# Altium schematic symbol library 原理图封装库.SCHLIB: 195 symbols (part 1 of 2)
Pins are listed as number, name and electrical type; pins without a type are passive.

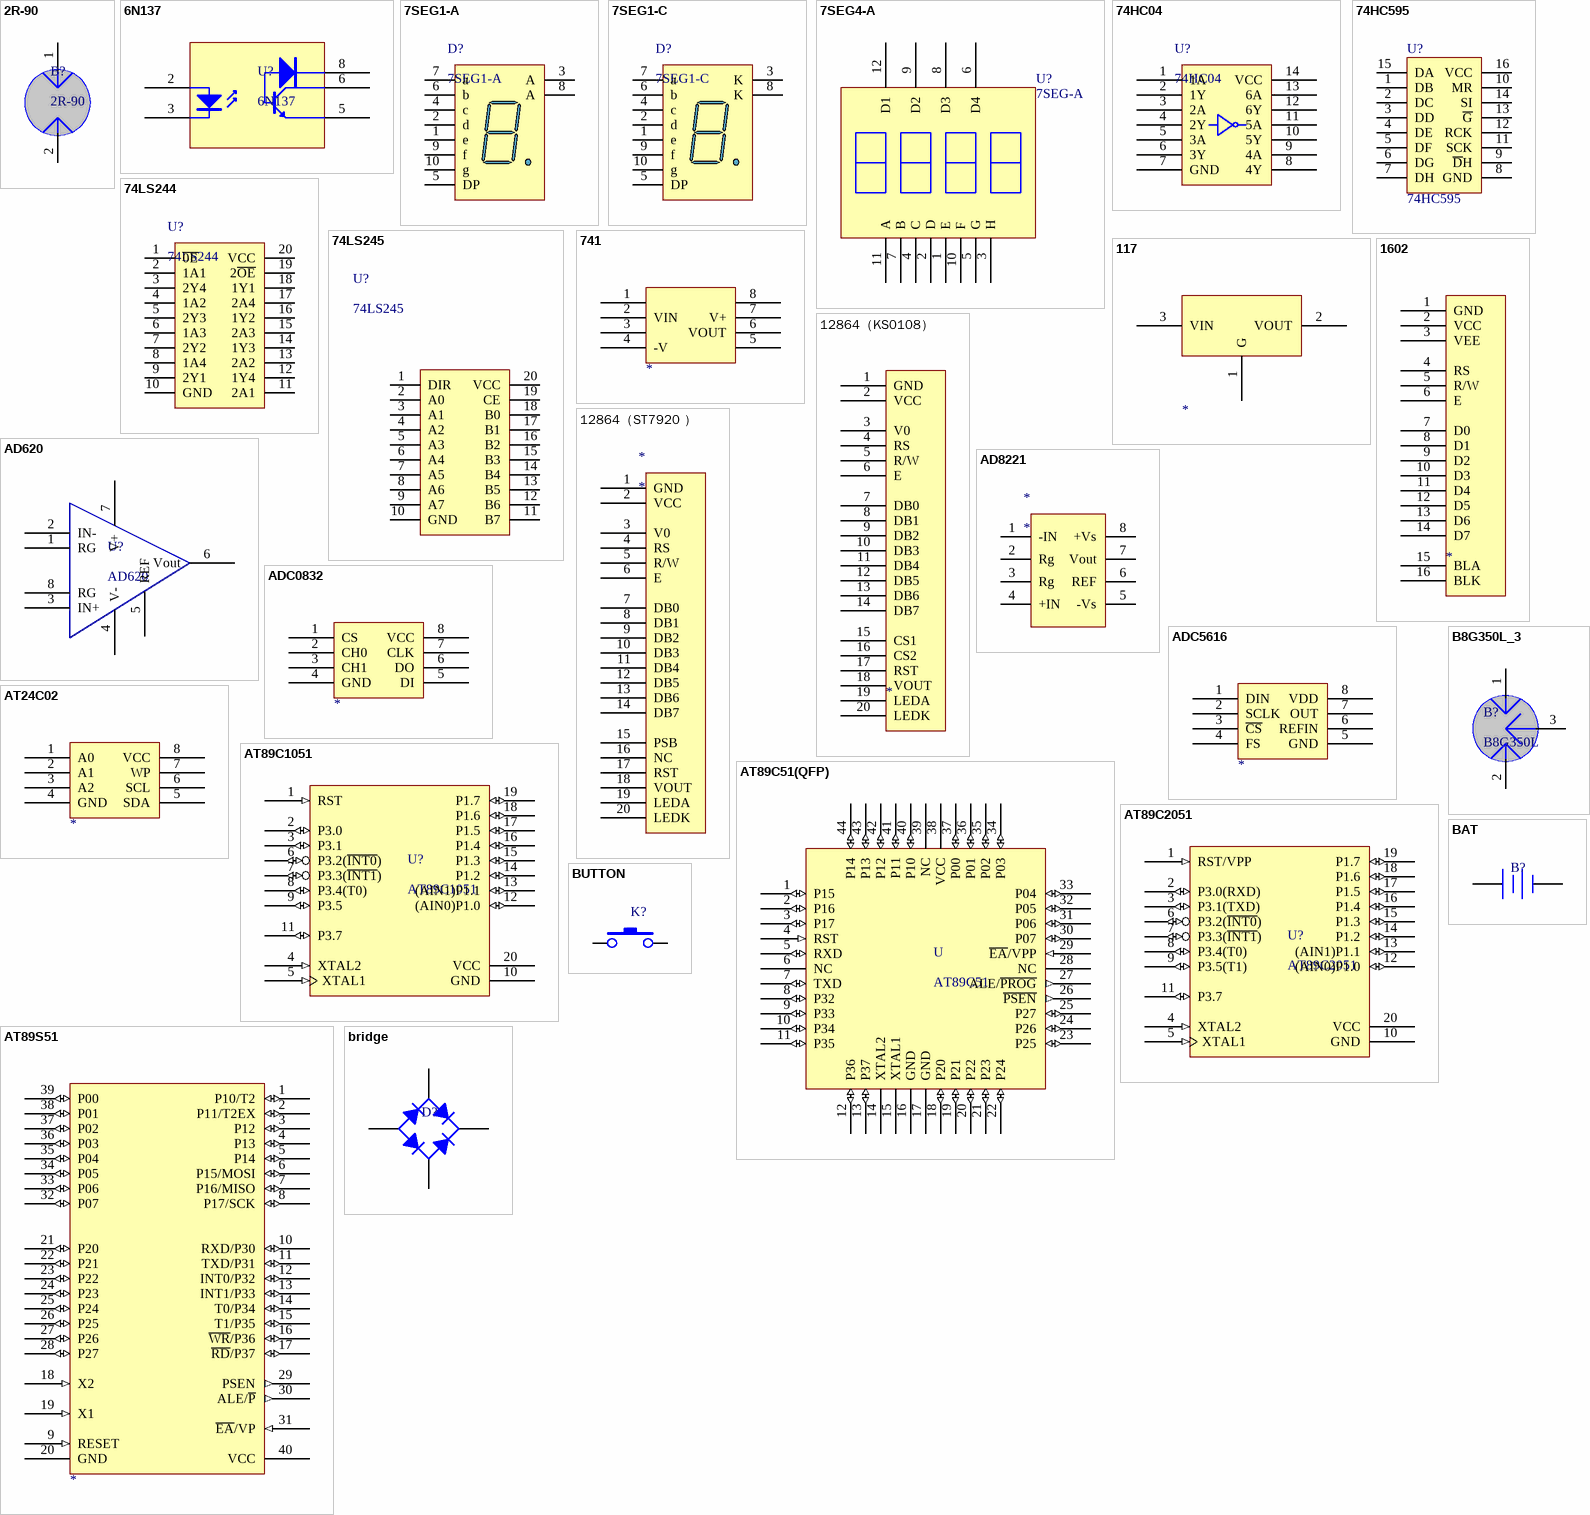
[diagram p0: symbols 2R-90 to BUTTON]

## 2R-90
designator B?
footprint B8G090L
pins: 1, 2

## 6N137
designator U?
pins: 2, 3, 5, 6, 8

## 7SEG1-A
designator D?
pins: 1 e "Cathode", 2 d "Cathode", 3 A "Common Anode", 4 c "Cathode", 5 DP "Cathode", 6 b "Cathode", 7 a "Cathode", 8 A "Common Anode", 9 f "Cathode", 10 g "Cathode"

## 7SEG1-C
designator D?
pins: 1 e "Anode", 2 d "Anode", 3 K "Common Cathode", 4 c "Anode", 5 DP "Anode", 6 b "Anode", 7 a "Anode", 8 K "Common Cathode", 9 f "Anode", 10 g "Anode"

## 7SEG4-A
designator U?, comment 7SEG-A
pins: 1 E, 2 D, 3 H, 4 C, 5 G, 6 D4, 7 B, 8 D3, 9 D2, 10 F, 11 A, 12 D1

## 74HC04
designator U?
pins: 1 1A, 2 1Y, 3 2A, 4 2Y, 5 3A, 6 3Y, 7 GND, 8 4Y, 9 4A, 10 5Y, 11 5A, 12 6Y, 13 6A, 14 VCC

## 74HC595
designator U?
pins: 1 DB, 2 DC, 3 DD, 4 DE, 5 DF, 6 DG, 7 DH, 8 GND, 9 ~{D}H, 10 MR, 11 SCK, 12 RCK, 13 ~{G}, 14 SI, 15 DA, 16 VCC

## 74LS244
designator U?
pins: 1 ~{0E}, 2 1A1, 3 2Y4, 4 1A2, 5 2Y3, 6 1A3, 7 2Y2, 8 1A4, 9 2Y1, 10 GND, 11 2A1, 12 1Y4, 13 2A2, 14 1Y3, 15 2A3, 16 1Y2, 17 2A4, 18 1Y1, 19 2~{OE}, 20 VCC

## 74LS245
designator U?
pins: 1 DIR, 2 A0, 3 A1, 4 A2, 5 A3, 6 A4, 7 A5, 8 A6, 9 A7, 10 GND, 11 B7, 12 B6, 13 B5, 14 B4, 15 B3, 16 B2, 17 B1, 18 B0, 19 CE, 20 VCC

## 117
designator ?
pins: 1 G, 2 VOUT, 3 VIN

## 741
designator ?
pins: 1, 2 VIN, 3, 4 -V, 5, 6 VOUT, 7 V+, 8

## 1602
designator ?
pins: 1 GND, 2 VCC, 3 VEE, 4 RS, 5 R/W, 6 E, 7 D0, 8 D1, 9 D2, 10 D3, 11 D4, 12 D5, 13 D6, 14 D7, 15 BLA, 16 BLK

## 12864（KS0108）
designator ?
pins: 1 GND, 2 VCC, 3 V0, 4 RS, 5 R/W, 6 E, 7 DB0, 8 DB1, 9 DB2, 10 DB3, 11 DB4, 12 DB5, 13 DB6, 14 DB7, 15 CS1, 16 CS2, 17 RST, 18 VOUT, 19 LEDA, 20 LEDK

## 12864（ST7920 ）
designator *
pins: 1 GND, 2 VCC, 3 V0, 4 RS, 5 R/W, 6 E, 7 DB0, 8 DB1, 9 DB2, 10 DB3, 11 DB4, 12 DB5, 13 DB6, 14 DB7, 15 PSB, 16 NC, 17 RST, 18 VOUT, 19 LEDA, 20 LEDK

## AD620
designator U?
pins: 1 RG, 2 IN-, 3 IN+, 4 V-, 5 REF, 6 Vout, 7 V+, 8 RG

## AD8221
designator *
pins: 1 -IN, 2 Rg, 3 Rg, 4 +IN, 5 -Vs, 6 REF, 7 Vout, 8 +Vs

## ADC0832
designator ?
pins: 1 CS, 2 CH0, 3 CH1, 4 GND, 5 DI, 6 DO, 7 CLK, 8 VCC

## ADC5616
designator ?
pins: 1 DIN, 2 SCLK, 3 ~{CS}, 4 FS, 5 GND, 6 REFIN, 7 OUT, 8 VDD

## AT24C02
designator ?
pins: 1 A0, 2 A1, 3 A2, 4 GND, 5 SDA, 6 SCL, 7 WP, 8 VCC

## AT89C51(QFP)
designator U, comment AT89C51
pins: 1 P15 (io), 2 P16 (io), 3 P17 (io), 4 RST (in), 5 RXD (io), 6 NC, 7 TXD (io), 8 P32 (io), 9 P33 (io), 10 P34 (io), 11 P35 (io), 12 P36 (io), 13 P37 (io), 14 XTAL2, 15 XTAL1, 16 GND (power), 17 GND (power), 18 P20 (io), 19 P21 (io), 20 P22 (io), 21 P23 (io), 22 P24 (io), 23 P25 (io), 24 P26 (io), 25 P27 (io), 26 ~{PSEN} (out), 27 ALE/~{PROG} (out), 28 NC, 29 ~{EA}/VPP (in), 30 P07 (io), 31 P06 (io), 32 P05 (io), 33 P04 (io), 34 P03 (io), 35 P02 (io), 36 P01 (io), 37 P00 (io), 38 VCC (power), 39 NC, 40 P10 (io), 41 P11 (io), 42 P12 (io), 43 P13 (io), 44 P14 (io)

## AT89C1051
designator U?
pins: 1 RST (in), 2 P3.0 (io), 3 P3.1 (io), 4 XTAL2 (in), 5 XTAL1 (in), 6 P3.2(~{INT0}) (io), 7 P3.3(~{INT1}) (io), 8 P3.4(T0) (io), 9 P3.5 (io), 10 GND (power), 11 P3.7 (io), 12 (AIN0)P1.0 (io), 13 (AIN1)P1.1 (io), 14 P1.2 (io), 15 P1.3 (io), 16 P1.4 (io), 17 P1.5 (io), 18 P1.6 (io), 19 P1.7 (io), 20 VCC (power)

## AT89C2051
designator U?
pins: 1 RST/VPP (in), 2 P3.0(RXD) (io), 3 P3.1(TXD) (io), 4 XTAL2 (in), 5 XTAL1 (in), 6 P3.2(~{INT0}) (io), 7 P3.3(~{INT1}) (io), 8 P3.4(T0) (io), 9 P3.5(T1) (io), 10 GND (power), 11 P3.7 (io), 12 (AIN0)P1.0 (io), 13 (AIN1)P1.1 (io), 14 P1.2 (io), 15 P1.3 (io), 16 P1.4 (io), 17 P1.5 (io), 18 P1.6 (io), 19 P1.7 (io), 20 VCC (power)

## AT89S51
designator ?
pins: 1 P10/T2 (io), 2 P11/T2EX (io), 3 P12 (io), 4 P13 (io), 5 P14 (io), 6 P15/MOSI (io), 7 P16/MISO (io), 8 P17/SCK (io), 9 RESET (in), 10 RXD/P30 (io), 11 TXD/P31 (io), 12 INT0/P32 (io), 13 INT1/P33 (io), 14 T0/P34 (io), 15 T1/P35 (io), 16 ~{WR}/P36 (io), 17 ~{RD}/P37 (io), 18 X2 (in), 19 X1 (in), 20 GND, 21 P20 (io), 22 P21 (io), 23 P22 (io), 24 P23 (io), 25 P24 (io), 26 P25 (io), 27 P26 (io), 28 P27 (io), 29 PSEN (out), 30 ALE/~{P} (out), 31 ~{EA}/VP (in), 32 P07 (io), 33 P06 (io), 34 P05 (io), 35 P04 (io), 36 P03 (io), 37 P02 (io), 38 P01 (io), 39 P00 (io), 40 VCC

## B8G350L_3
designator B?, comment B8G350L
pins: 1, 2, 3

## BAT
designator B?, comment B  (value not drawn)
pins: 1 +, 2 -

## bridge
designator D?, comment D  (value not drawn)
pins: 1 A, 2 C, 3 K, 4 C

## BUTTON
designator K?  (value not drawn)
pins: 1, 2

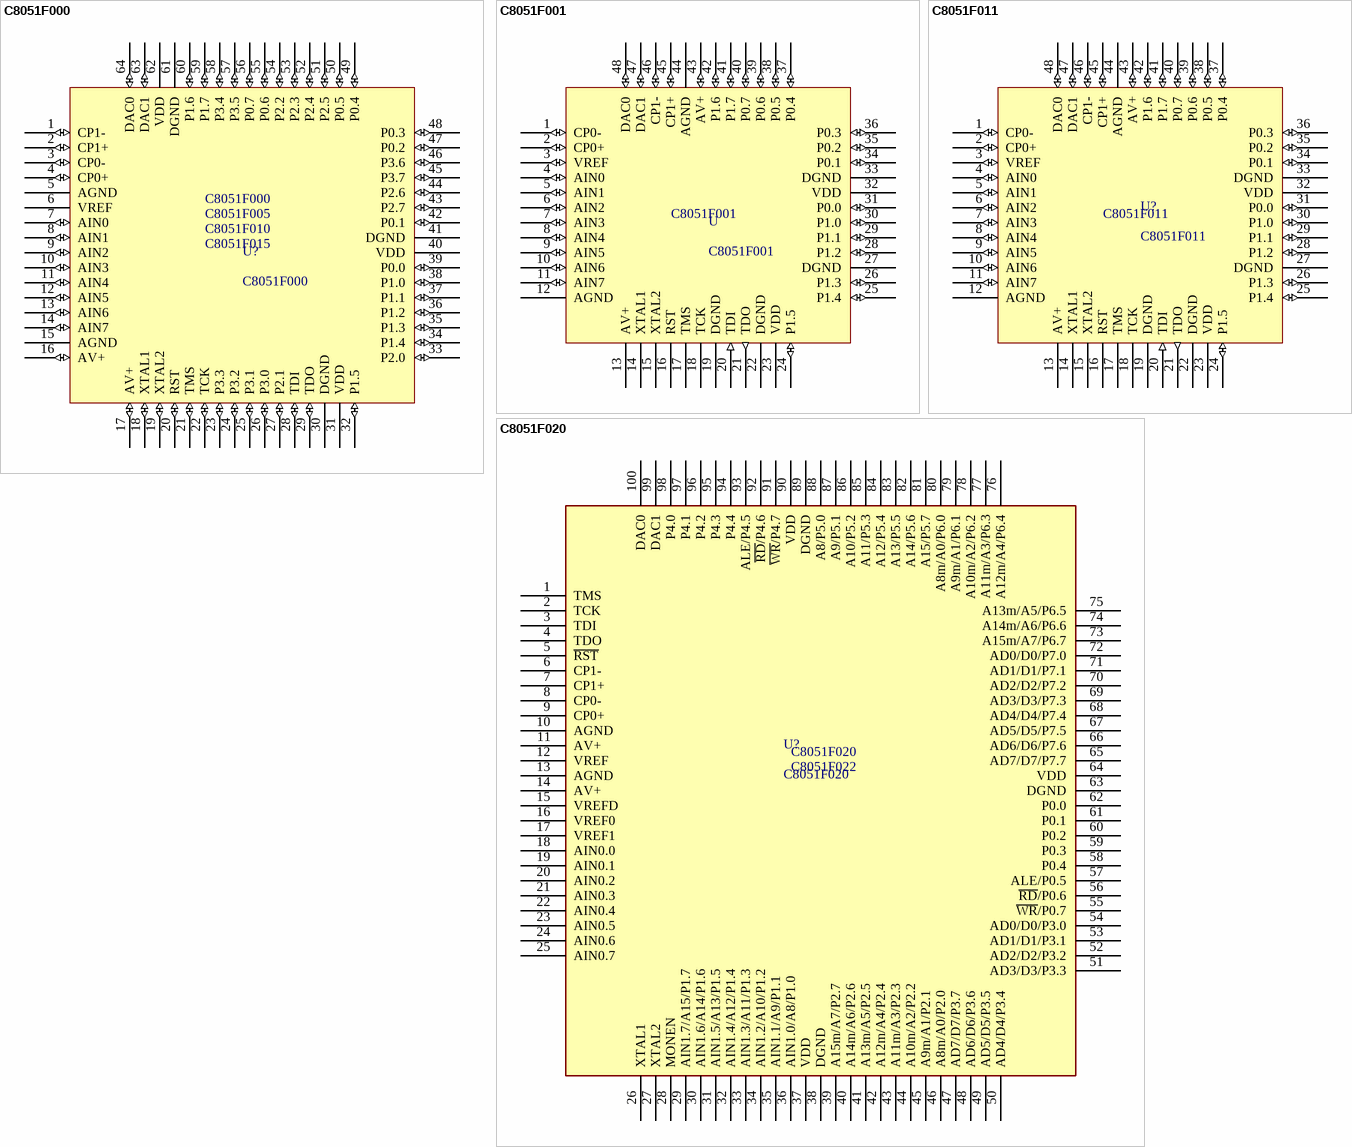
[diagram p1: symbols C8051F000 to C8051F020]

## C8051F000
designator U?
pins: 1 CP1- (io), 2 CP1+ (io), 3 CP0- (io), 4 CP0+ (io), 5 AGND (power), 6 VREF (power), 7 AIN0 (io), 8 AIN1 (io), 9 AIN2 (io), 10 AIN3 (io), 11 AIN4 (io), 12 AIN5 (io), 13 AIN6 (io), 14 AIN7 (io), 15 AGND (power), 16 AV+ (io), 17 AV+ (io), 18 XTAL1 (io), 19 XTAL2 (io), 20 RST (io), 21 TMS (io), 22 TCK (io), 23 P3.3 (io), 24 P3.2 (io), 25 P3.1 (io), 26 P3.0 (io), 27 P2.1 (io), 28 TDI (io), 29 TDO (io), 30 DGND (power), 31 VDD (power), 32 P1.5 (io), 33 P2.0 (io), 34 P1.4 (io), 35 P1.3 (io), 36 P1.2 (io), 37 P1.1 (io), 38 P1.0 (io), 39 P0.0 (io), 40 VDD (power), 41 DGND (power), 42 P0.1 (io), 43 P2.7 (io), 44 P2.6 (io), 45 P3.7 (io), 46 P3.6 (io), 47 P0.2 (io), 48 P0.3 (io), 49 P0.4 (io), 50 P0.5 (io), 51 P2.5 (io), 52 P2.4 (io), 53 P2.3 (io), 54 P2.2 (io), 55 P0.6 (io), 56 P0.7 (io), 57 P3.5 (io), 58 P3.4 (io), 59 P1.7 (io), 60 P1.6 (io), 61 DGND (power), 62 VDD (power), 63 DAC1 (io), 64 DAC0 (io)
text: C8051F005; C8051F010; C8051F015

## C8051F001
designator U
pins: 1 CP0- (io), 2 CP0+ (io), 3 VREF (io), 4 AIN0 (io), 5 AIN1 (io), 6 AIN2 (io), 7 AIN3 (io), 8 AIN4 (io), 9 AIN5 (io), 10 AIN6 (io), 11 AIN7 (io), 12 AGND (power), 13 AV+ (power), 14 XTAL1 (power), 15 XTAL2 (power), 16 RST (power), 17 TMS (power), 18 TCK (power), 19 DGND (power), 20 TDI (in), 21 TDO (out), 22 DGND (power), 23 VDD (power), 24 P1.5 (io), 25 P1.4 (io), 26 P1.3 (io), 27 DGND (power), 28 P1.2 (io), 29 P1.1 (io), 30 P1.0 (io), 31 P0.0 (io), 32 VDD (power), 33 DGND (power), 34 P0.1 (io), 35 P0.2 (io), 36 P0.3 (io), 37 P0.4 (io), 38 P0.5 (io), 39 P0.6 (io), 40 P0.7 (io), 41 P1.7 (io), 42 P1.6 (io), 43 AV+ (io), 44 AGND (power), 45 CP1+ (io), 46 CP1- (io), 47 DAC1 (io), 48 DAC0 (io)

## C8051F011
designator U?
pins: 1 CP0- (io), 2 CP0+ (io), 3 VREF (io), 4 AIN0 (io), 5 AIN1 (io), 6 AIN2 (io), 7 AIN3 (io), 8 AIN4 (io), 9 AIN5 (io), 10 AIN6 (io), 11 AIN7 (io), 12 AGND (power), 13 AV+ (power), 14 XTAL1 (power), 15 XTAL2 (power), 16 RST (power), 17 TMS (power), 18 TCK (power), 19 DGND (power), 20 TDI (in), 21 TDO (out), 22 DGND (power), 23 VDD (power), 24 P1.5 (io), 25 P1.4 (io), 26 P1.3 (io), 27 DGND (power), 28 P1.2 (io), 29 P1.1 (io), 30 P1.0 (io), 31 P0.0 (io), 32 VDD (power), 33 DGND (power), 34 P0.1 (io), 35 P0.2 (io), 36 P0.3 (io), 37 P0.4 (io), 38 P0.5 (io), 39 P0.6 (io), 40 P0.7 (io), 41 P1.7 (io), 42 P1.6 (io), 43 AV+ (io), 44 AGND (power), 45 CP1+ (io), 46 CP1- (io), 47 DAC1 (io), 48 DAC0 (io)

## C8051F020
designator U?
pins: 1 TMS, 2 TCK, 3 TDI, 4 TDO, 5 ~{RST}, 6 CP1-, 7 CP1+, 8 CP0-, 9 CP0+, 10 AGND, 11 AV+, 12 VREF, 13 AGND, 14 AV+, 15 VREFD, 16 VREF0, 17 VREF1, 18 AIN0.0, 19 AIN0.1, 20 AIN0.2, 21 AIN0.3, 22 AIN0.4, 23 AIN0.5, 24 AIN0.6, 25 AIN0.7, 26 XTAL1, 27 XTAL2, 28 MONEN, 29 AIN1.7/A15/P1.7, 30 AIN1.6/A14/P1.6, 31 AIN1.5/A13/P1.5, 32 AIN1.4/A12/P1.4, 33 AIN1.3/A11/P1.3, 34 AIN1.2/A10/P1.2, 35 AIN1.1/A9/P1.1, 36 AIN1.0/A8/P1.0, 37 VDD, 38 DGND, 39 A15m/A7/P2.7, 40 A14m/A6/P2.6, 41 A13m/A5/P2.5, 42 A12m/A4/P2.4, 43 A11m/A3/P2.3, 44 A10m/A2/P2.2, 45 A9m/A1/P2.1, 46 A8m/A0/P2.0, 47 AD7/D7/P3.7, 48 AD6/D6/P3.6, 49 AD5/D5/P3.5, 50 AD4/D4/P3.4, 51 AD3/D3/P3.3, 52 AD2/D2/P3.2, 53 AD1/D1/P3.1, 54 AD0/D0/P3.0, 55 ~{WR}/P0.7, 56 ~{RD}/P0.6, 57 ALE/P0.5, 58 P0.4, 59 P0.3, 60 P0.2, 61 P0.1, 62 P0.0, 63 DGND, 64 VDD, 65 AD7/D7/P7.7, 66 AD6/D6/P7.6, 67 AD5/D5/P7.5, 68 AD4/D4/P7.4, 69 AD3/D3/P7.3, 70 AD2/D2/P7.2, 71 AD1/D1/P7.1, 72 AD0/D0/P7.0, 73 A15m/A7/P6.7, 74 A14m/A6/P6.6, 75 A13m/A5/P6.5, 76 A12m/A4/P6.4, 77 A11m/A3/P6.3, 78 A10m/A2/P6.2, 79 A9m/A1/P6.1, 80 A8m/A0/P6.0, 81 A15/P5.7, 82 A14/P5.6, 83 A13/P5.5, 84 A12/P5.4, 85 A11/P5.3, 86 A10/P5.2, 87 A9/P5.1, 88 A8/P5.0, 89 DGND, 90 VDD, 91 ~{WR}/P4.7, 92 ~{RD}/P4.6, 93 ALE/P4.5, 94 P4.4, 95 P4.3, 96 P4.2, 97 P4.1, 98 P4.0, 99 DAC1, 100 DAC0
text: C8051F022

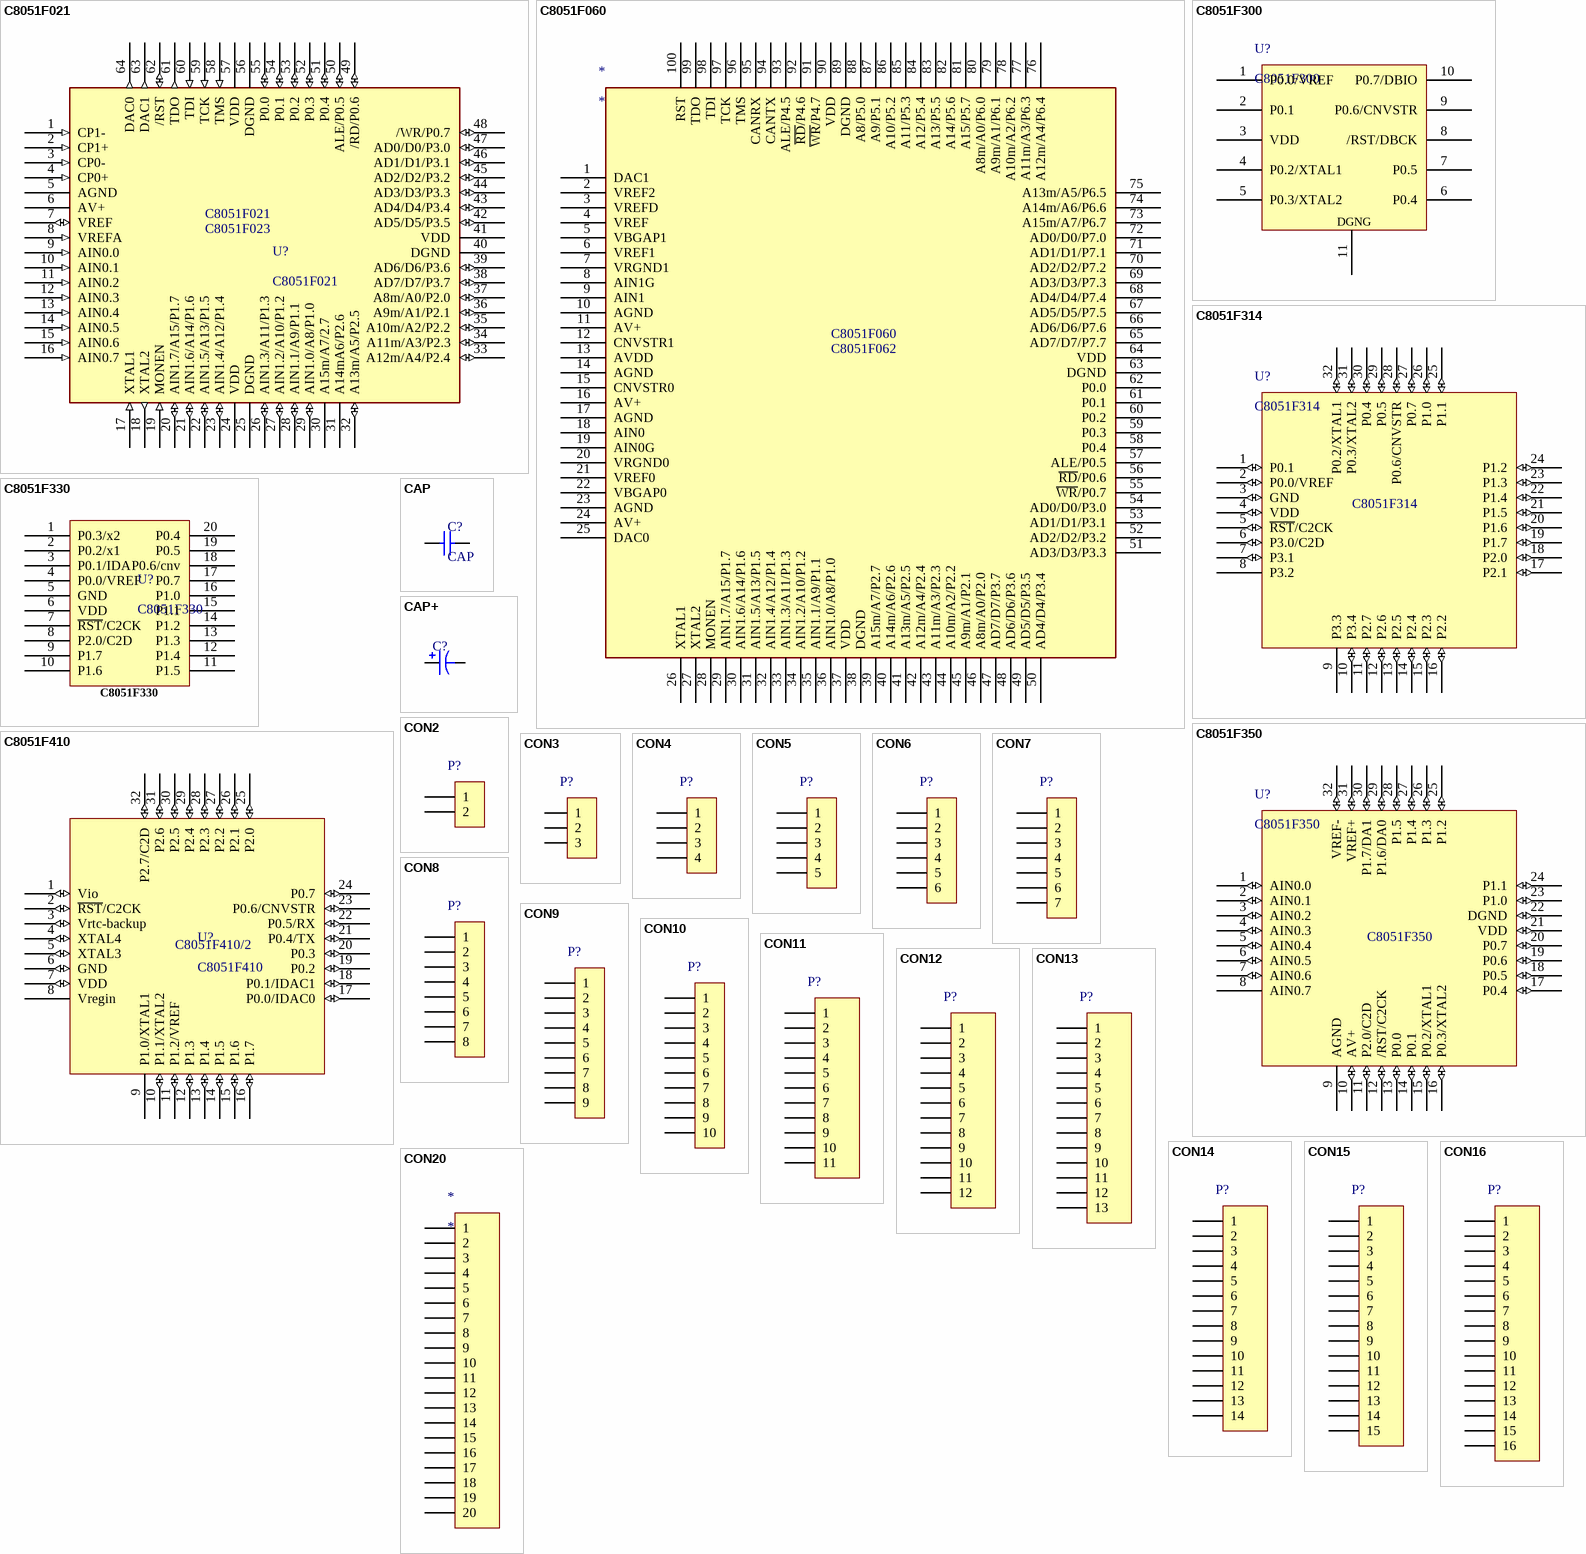
[diagram p2: symbols C8051F021 to CON20]

## C8051F021
designator U?
pins: 1 CP1- (in), 2 CP1+ (in), 3 CP0- (in), 4 CP0+ (in), 5 AGND (power), 6 AV+ (power), 7 VREF (io), 8 VREFA (in), 9 AIN0.0 (in), 10 AIN0.1 (in), 11 AIN0.2 (in), 12 AIN0.3 (in), 13 AIN0.4 (in), 14 AIN0.5 (in), 15 AIN0.6 (in), 16 AIN0.7 (in), 17 XTAL1 (in), 18 XTAL2 (out), 19 MONEN (in), 20 AIN1.7/A15/P1.7 (io), 21 AIN1.6/A14/P1.6 (io), 22 AIN1.5/A13/P1.5 (io), 23 AIN1.4/A12/P1.4 (io), 24 VDD (power), 25 DGND (power), 26 AIN1.3/A11/P1.3 (io), 27 AIN1.2/A10/P1.2 (io), 28 AIN1.1/A9/P1.1 (io), 29 AIN1.0/A8/P1.0 (io), 30 A15m/A7/2.7 (power), 31 A14mA6/P2.6 (power), 32 A13m/A5/P2.5 (io), 33 A12m/A4/P2.4 (io), 34 A11m/A3/P2.3 (io), 35 A10m/A2/P2.2 (io), 36 A9m/A1/P2.1 (io), 37 A8m/A0/P2.0 (io), 38 AD7/D7/P3.7 (io), 39 AD6/D6/P3.6 (io), 40 DGND (power), 41 VDD (power), 42 AD5/D5/P3.5 (io), 43 AD4/D4/P3.4 (io), 44 AD3/D3/P3.3 (io), 45 AD2/D2/P3.2 (io), 46 AD1/D1/P3.1 (io), 47 AD0/D0/P3.0 (io), 48 /WR/P0.7 (io), 49 /RD/P0.6 (io), 50 ALE/P0.5 (io), 51 P0.4 (io), 52 P0.3 (io), 53 P0.2 (io), 54 P0.1 (io), 55 P0.0 (io), 56 DGND (power), 57 VDD (power), 58 TMS (in), 59 TCK (in), 60 TDI (in), 61 TDO (out), 62 /RST (io), 63 DAC1 (out), 64 DAC0 (out)
text: C8051F023

## C8051F060
designator *
pins: 1 DAC1, 2 VREF2, 3 VREFD, 4 VREF, 5 VBGAP1, 6 VREF1, 7 VRGND1, 8 AIN1G, 9 AIN1, 10 AGND, 11 AV+, 12 CNVSTR1, 13 AVDD, 14 AGND, 15 CNVSTR0, 16 AV+, 17 AGND, 18 AIN0, 19 AIN0G, 20 VRGND0, 21 VREF0, 22 VBGAP0, 23 AGND, 24 AV+, 25 DAC0, 26 XTAL1, 27 XTAL2, 28 MONEN, 29 AIN1.7/A15/P1.7, 30 AIN1.6/A14/P1.6, 31 AIN1.5/A13/P1.5, 32 AIN1.4/A12/P1.4, 33 AIN1.3/A11/P1.3, 34 AIN1.2/A10/P1.2, 35 AIN1.1/A9/P1.1, 36 AIN1.0/A8/P1.0, 37 VDD, 38 DGND, 39 A15m/A7/P2.7, 40 A14m/A6/P2.6, 41 A13m/A5/P2.5, 42 A12m/A4/P2.4, 43 A11m/A3/P2.3, 44 A10m/A2/P2.2, 45 A9m/A1/P2.1, 46 A8m/A0/P2.0, 47 AD7/D7/P3.7, 48 AD6/D6/P3.6, 49 AD5/D5/P3.5, 50 AD4/D4/P3.4, 51 AD3/D3/P3.3, 52 AD2/D2/P3.2, 53 AD1/D1/P3.1, 54 AD0/D0/P3.0, 55 ~{WR}/P0.7, 56 ~{RD}/P0.6, 57 ALE/P0.5, 58 P0.4, 59 P0.3, 60 P0.2, 61 P0.1, 62 P0.0, 63 DGND, 64 VDD, 65 AD7/D7/P7.7, 66 AD6/D6/P7.6, 67 AD5/D5/P7.5, 68 AD4/D4/P7.4, 69 AD3/D3/P7.3, 70 AD2/D2/P7.2, 71 AD1/D1/P7.1, 72 AD0/D0/P7.0, 73 A15m/A7/P6.7, 74 A14m/A6/P6.6, 75 A13m/A5/P6.5, 76 A12m/A4/P6.4, 77 A11m/A3/P6.3, 78 A10m/A2/P6.2, 79 A9m/A1/P6.1, 80 A8m/A0/P6.0, 81 A15/P5.7, 82 A14/P5.6, 83 A13/P5.5, 84 A12/P5.4, 85 A11/P5.3, 86 A10/P5.2, 87 A9/P5.1, 88 A8/P5.0, 89 DGND, 90 VDD, 91 ~{WR}/P4.7, 92 ~{RD}/P4.6, 93 ALE/P4.5, 94 CANTX, 95 CANRX, 96 TMS, 97 TCK, 98 TDI, 99 TDO, 100 RST
text: C8051F062

## C8051F300
designator U?
pins: 1 P0.0/VREF, 2 P0.1, 3 VDD, 4 P0.2/XTAL1, 5 P0.3/XTAL2, 6 P0.4, 7 P0.5, 8 /RST/DBCK, 9 P0.6/CNVSTR, 10 P0.7/DBIO, 11 DGND
text: DGNG

## C8051F314
designator U?
pins: 1 P0.1 (io), 2 P0.0/VREF (io), 3 GND (io), 4 VDD (io), 5 ~{RST}/C2CK (io), 6 P3.0/C2D (io), 7 P3.1 (io), 8 P3.2 (power), 9 P3.3 (power), 10 P3.4 (io), 11 P2.7 (io), 12 P2.6 (io), 13 P2.5 (io), 14 P2.4 (io), 15 P2.3 (io), 16 P2.2 (io), 17 P2.1 (io), 18 P2.0 (io), 19 P1.7 (io), 20 P1.6 (io), 21 P1.5 (io), 22 P1.4 (io), 23 P1.3 (io), 24 P1.2 (io), 25 P1.1 (io), 26 P1.0 (io), 27 P0.7 (io), 28 P0.6/CNVSTR (io), 29 P0.5 (io), 30 P0.4 (io), 31 P0.3/XTAL2 (io), 32 P0.2/XTAL1 (io)

## C8051F330
designator U?
pins: 1 P0.3/x2, 2 P0.2/x1, 3 P0.1/IDA, 4 P0.0/VREF, 5 GND, 6 VDD, 7 ~{RST}/C2CK, 8 P2.0/C2D, 9 P1.7, 10 P1.6, 11 P1.5, 12 P1.4, 13 P1.3, 14 P1.2, 15 P1.1, 16 P1.0, 17 P0.7, 18 P0.6/cnv, 19 P0.5, 20 P0.4

## C8051F350
designator U?
pins: 1 AIN0.0 (io), 2 AIN0.1 (io), 3 AIN0.2 (io), 4 AIN0.3 (io), 5 AIN0.4 (io), 6 AIN0.5 (io), 7 AIN0.6 (io), 8 AIN0.7 (power), 9 AGND (power), 10 AV+ (io), 11 P2.0/C2D (io), 12 /RST/C2CK (io), 13 P0.0 (io), 14 P0.1 (io), 15 P0.2/XTAL1 (io), 16 P0.3/XTAL2 (io), 17 P0.4 (io), 18 P0.5 (io), 19 P0.6 (io), 20 P0.7 (io), 21 VDD (io), 22 DGND (io), 23 P1.0 (io), 24 P1.1 (io), 25 P1.2 (io), 26 P1.3 (io), 27 P1.4 (io), 28 P1.5 (io), 29 P1.6/DA0 (io), 30 P1.7/DA1 (io), 31 VREF+ (io), 32 VREF- (io)

## C8051F410
designator U?
pins: 1 Vio (io), 2 ~{RST}/C2CK (io), 3 Vrtc-backup (io), 4 XTAL4 (io), 5 XTAL3 (io), 6 GND (io), 7 VDD (io), 8 Vregin (power), 9 P1.0/XTAL1 (power), 10 P1.1/XTAL2 (io), 11 P1.2/VREF (io), 12 P1.3 (io), 13 P1.4 (io), 14 P1.5 (io), 15 P1.6 (io), 16 P1.7 (io), 17 P0.0/IDAC0 (io), 18 P0.1/IDAC1 (io), 19 P0.2 (io), 20 P0.3 (io), 21 P0.4/TX (io), 22 P0.5/RX (io), 23 P0.6/CNVSTR (io), 24 P0.7 (io), 25 P2.0 (io), 26 P2.1 (io), 27 P2.2 (io), 28 P2.3 (io), 29 P2.4 (io), 30 P2.5 (io), 31 P2.6 (io), 32 P2.7/C2D (io)
text: C8051F410/2

## CAP
designator C?
pins: 1, 2

## CAP+
designator C?, comment CAP  (value not drawn)
pins: 1, 2

## CON2
designator P?  (value not drawn)
pins: 1, 2

## CON3
designator P?  (value not drawn)
pins: 1, 2, 3

## CON4
designator P?  (value not drawn)
pins: 1, 2, 3, 4

## CON5
designator P?  (value not drawn)
pins: 1, 2, 3, 4, 5

## CON6
designator P?  (value not drawn)
pins: 1, 2, 3, 4, 5, 6

## CON7
designator P?  (value not drawn)
pins: 1, 2, 3, 4, 5, 6, 7

## CON8
designator P?  (value not drawn)
pins: 1, 2, 3, 4, 5, 6, 7, 8

## CON9
designator P?  (value not drawn)
pins: 1, 2, 3, 4, 5, 6, 7, 8, 9

## CON10
designator P?  (value not drawn)
pins: 1, 2, 3, 4, 5, 6, 7, 8, 9, 10

## CON11
designator P?  (value not drawn)
pins: 1, 2, 3, 4, 5, 6, 7, 8, 9, 10, 11

## CON12
designator P?, comment C0N12  (value not drawn)
pins: 1, 2, 3, 4, 5, 6, 7, 8, 9, 10, 11, 12

## CON13
designator P?  (value not drawn)
pins: 1, 2, 3, 4, 5, 6, 7, 8, 9, 10, 11, 12, 13

## CON14
designator P?  (value not drawn)
pins: 1, 2, 3, 4, 5, 6, 7, 8, 9, 10, 11, 12, 13, 14

## CON15
designator P?  (value not drawn)
footprint SIP15 (Footprint not found)
pins: 1, 2, 3, 4, 5, 6, 7, 8, 9, 10, 11, 12, 13, 14, 15

## CON16
designator P?  (value not drawn)
pins: 1, 2, 3, 4, 5, 6, 7, 8, 9, 10, 11, 12, 13, 14, 15, 16

## CON20
designator *
pins: 1, 2, 3, 4, 5, 6, 7, 8, 9, 10, 11, 12, 13, 14, 15, 16, 17, 18, 19, 20

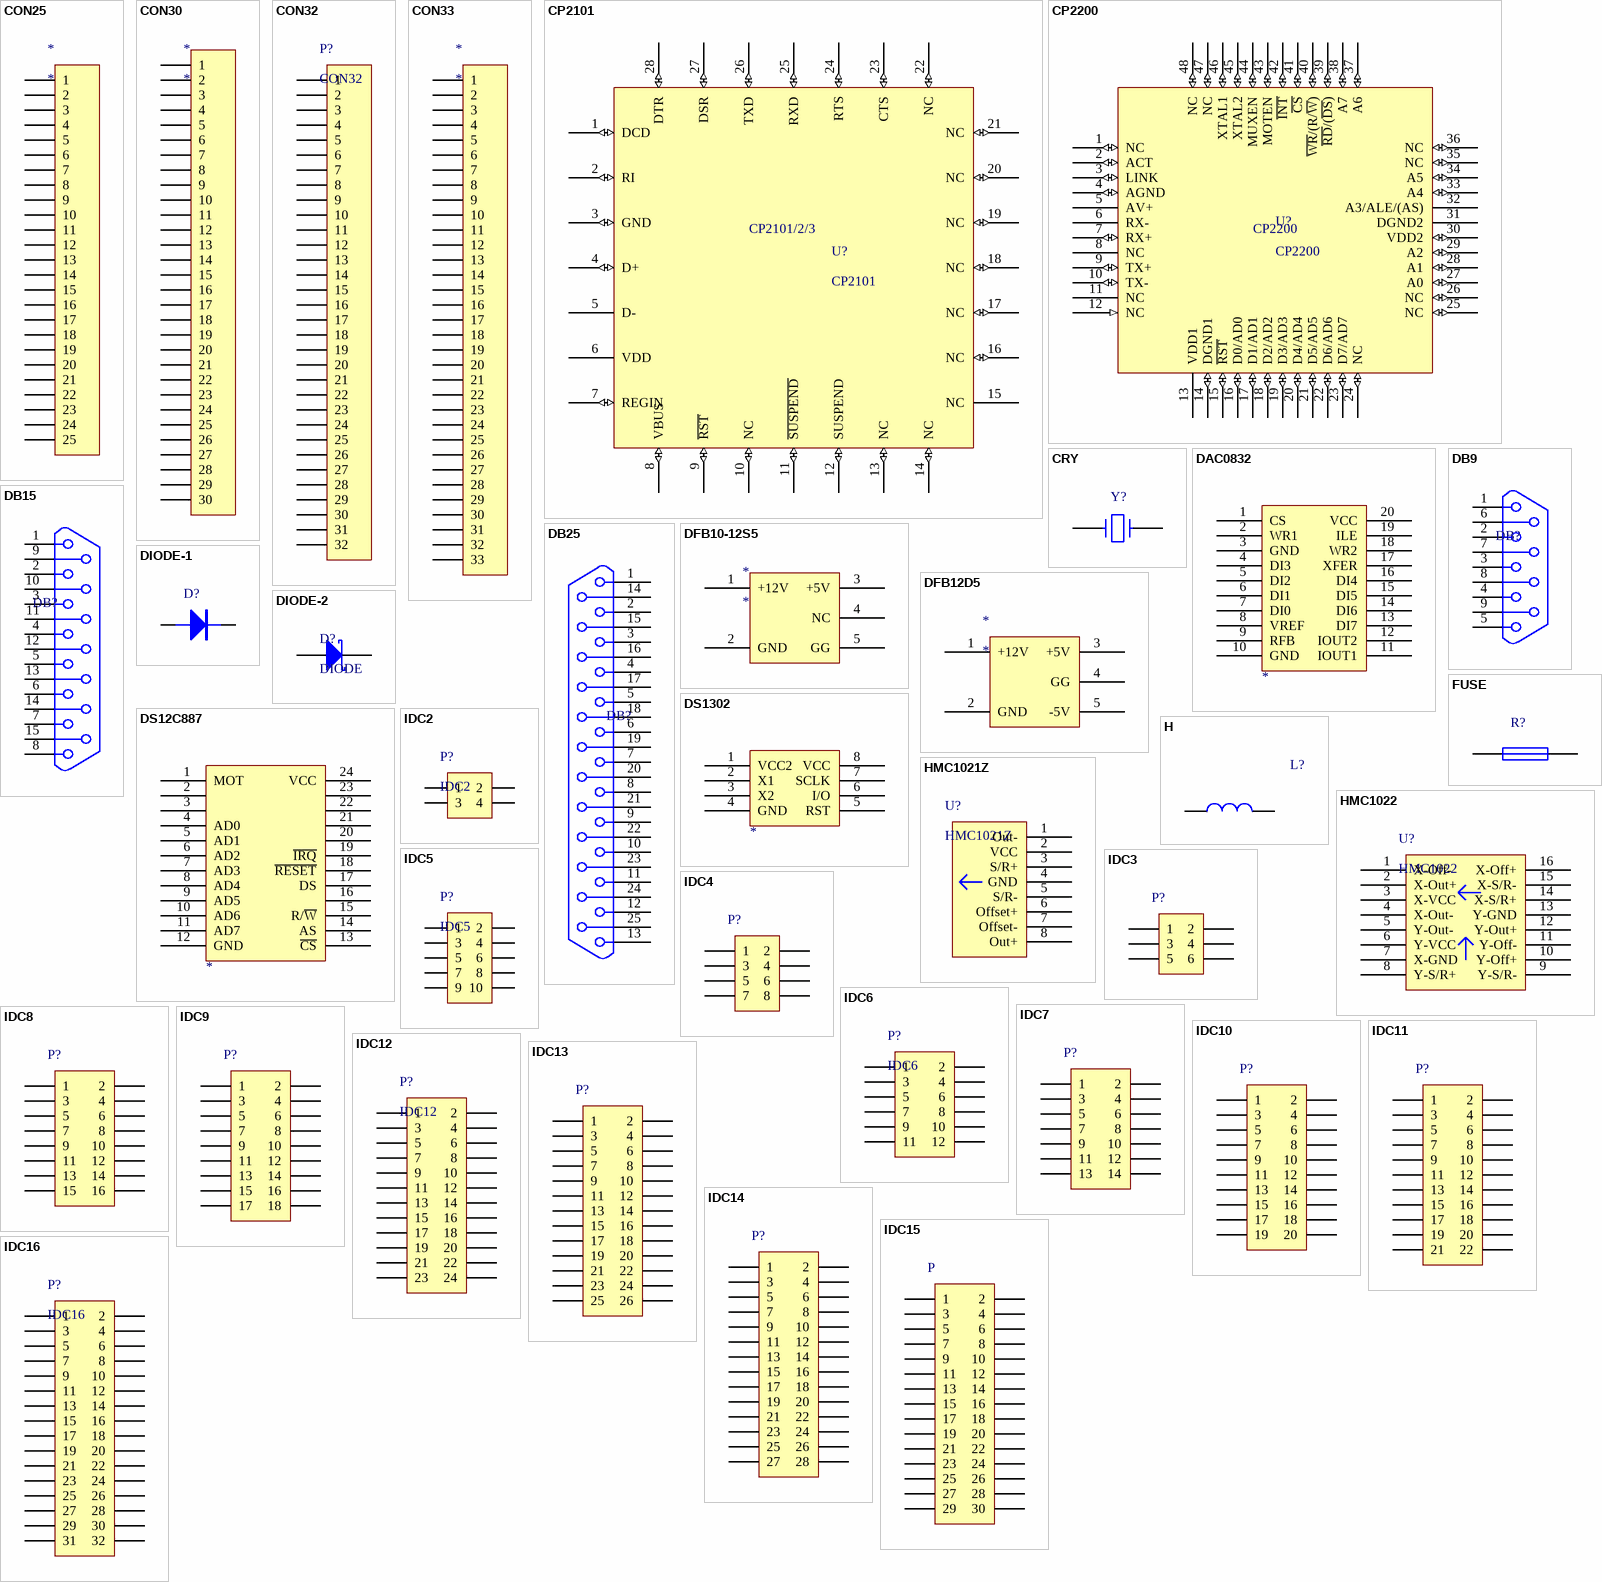
[diagram p3: symbols CON25 to IDC16]

## CON25
designator *
pins: 1, 2, 3, 4, 5, 6, 7, 8, 9, 10, 11, 12, 13, 14, 15, 16, 17, 18, 19, 20, 21, 22, 23, 24, 25

## CON30
designator *
pins: 1, 2, 3, 4, 5, 6, 7, 8, 9, 10, 11, 12, 13, 14, 15, 16, 17, 18, 19, 20, 21, 22, 23, 24, 25, 26, 27, 28, 29, 30

## CON32
designator P?
pins: 1, 2, 3, 4, 5, 6, 7, 8, 9, 10, 11, 12, 13, 14, 15, 16, 17, 18, 19, 20, 21, 22, 23, 24, 25, 26, 27, 28, 29, 30, ?1 31, ?2 32

## CON33
designator *
pins: 1, 2, 3, 4, 5, 6, 7, 8, 9, 10, 11, 12, 13, 14, 15, 16, 17, 18, 19, 20, 21, 22, 23, 24, 25, 26, 27, 28, 29, 30, ?1 31, ?2 32, ?3 33

## CP2101
designator U?
pins: 1 DCD (io), 2 RI (io), 3 GND (io), 4 D+ (io), 5 D- (power), 6 VDD (power), 7 REGIN (io), 8 VBUS (io), 9 ~{RST} (io), 10 NC (io), 11 ~{SUSPEND} (io), 12 SUSPEND (io), 13 NC (io), 14 NC (io), 15 NC (power), 16 NC (io), 17 NC (io), 18 NC (io), 19 NC (io), 20 NC (io), 21 NC (io), 22 NC (io), 23 CTS (io), 24 RTS (io), 25 RXD (io), 26 TXD (io), 27 DSR (io), 28 DTR (io)
text: CP2101/2/3

## CP2200
designator U?
pins: 1 NC (io), 2 ACT (io), 3 LINK (io), 4 AGND (io), 5 AV+ (power), 6 RX- (power), 7 RX+ (io), 8 NC (power), 9 TX+ (io), 10 TX- (io), 11 NC (power), 12 NC (in), 13 VDD1 (power), 14 DGND1 (io), 15 ~{RST} (io), 16 D0/AD0 (io), 17 D1/AD1 (io), 18 D2/AD2 (io), 19 D3/AD3 (io), 20 D4/AD4 (io), 21 D5/AD5 (io), 22 D6/AD6 (io), 23 D7/AD7 (io), 24 NC (io), 25 NC (io), 26 NC (io), 27 A0 (io), 28 A1 (io), 29 A2 (io), 30 VDD2 (io), 31 DGND2 (power), 32 A3/ALE/(AS) (power), 33 A4 (io), 34 A5 (io), 35 NC (io), 36 NC (io), 37 A6 (io), 38 A7 (io), 39 ~{RD}/(~{DS}) (io), 40 ~{WR}/(R/~{W}) (io), 41 ~{CS} (io), 42 ~{INT} (io), 43 MOTEN (io), 44 MUXEN (io), 45 XTAL2 (io), 46 XTAL1 (io), 47 NC (io), 48 NC (io)

## CRY
designator Y?  (value not drawn)
pins: 1, 2

## DAC0832
designator ?
pins: 1 CS, 2 WR1, 3 GND, 4 DI3, 5 DI2, 6 DI1, 7 DI0, 8 VREF, 9 RFB, 10 GND, 11 IOUT1, 12 IOUT2, 13 DI7, 14 DI6, 15 DI5, 16 DI4, 17 XFER, 18 WR2, 19 ILE, 20 VCC

## DB9
designator DB?  (value not drawn)
pins: 1, 2, 3, 4, 5, 6, 7, 8, 9

## DB15
designator DB?  (value not drawn)
pins: 1, 2, 3, 4, 5, 6, 7, 8, 9, 10, 11, 12, 13, 14, 15

## DB25
designator DB?  (value not drawn)
pins: 1, 2, 3, 4, 5 25, 6, 7, 8, 9, 10, 11, 12, 13, 14, 15 25, 16, 17, 18, 19, 20, 21, 22, 23, 24, 25

## DFB10-12S5
designator *
pins: 1 +12V, 2 GND, 3 +5V, 4 NC, 5 GG

## DFB12D5
designator *
pins: 1 +12V, 2 GND, 3 +5V, 4 GG, 5 -5V

## DIODE-1
designator D?, comment DOIDE  (value not drawn)
pins: 1 A, 2 K

## DIODE-2
designator D?, comment DIODE
pins: 1 A, 2 K

## DS12C887
designator ?
pins: 1 MOT, 2, 3, 4 AD0, 5 AD1, 6 AD2, 7 AD3, 8 AD4, 9 AD5, 10 AD6, 11 AD7, 12 GND, 13 ~{CS}, 14 AS, 15 R/~{W}, 16, 17 DS, 18 ~{RESET}, 19 ~{IRQ}, 20, 21, 22, 23, 24 VCC

## DS1302
designator ?
pins: 1 VCC2, 2 X1, 3 X2, 4 GND, 5 RST, 6 I/O, 7 SCLK, 8 VCC

## FUSE
designator R?  (value not drawn)
pins: 1, 2

## H
designator L?, comment L  (value not drawn)
pins: 1, 2

## HMC1021Z
designator U?
pins: 1 Out-, 2 VCC, 3 S/R+, 4 GND, 5 S/R-, 6 Offset+, 7 Offset-, 8 Out+

## HMC1022
designator U?
pins: 1 X-Off-, 2 X-Out+, 3 X-VCC, 4 X-Out-, 5 Y-Out-, 6 Y-VCC, 7 X-GND, 8 Y-S/R+, 9 Y-S/R-, 10 Y-Off+, 11 Y-Off-, 12 Y-Out+, 13 Y-GND, 14 X-S/R+, 15 X-S/R-, 16 X-Off+

## IDC2
designator P?
pins: 1, 2, 3, 4

## IDC3
designator P?  (value not drawn)
pins: 1, 2, 3, 4, 5, 6

## IDC4
designator P?  (value not drawn)
pins: 1, 2, 3, 4, 5, 6, 7, 8

## IDC5
designator P?
pins: 1, 2, 3, 4, 5, 6, 7, 8, 9, 10

## IDC6
designator P?
pins: 1, 2, 3, 4, 5, 6, 7, 8, 9, 10, 11, 12

## IDC7
designator P?  (value not drawn)
pins: 1, 2, 3, 4, 5, 6, 7, 8, 9, 10, 11, 12, 13, 14

## IDC8
designator P?  (value not drawn)
pins: 1, 2, 3, 4, 5, 6, 7, 8, 9, 10, 11, 12, 13, 14, 15, 16

## IDC9
designator P?  (value not drawn)
pins: 1, 2, 3, 4, 5, 6, 7, 8, 9, 10, 11, 12, 13, 14, 15, 16, 17, 18

## IDC10
designator P?  (value not drawn)
pins: 1, 2, 3, 4, 5, 6, 7, 8, 9, 10, 11, 12, 13, 14, 15, 16, 17, 18, 19, 20

## IDC11
designator P?, comment IDC12  (value not drawn)
pins: 1, 2, 3, 4, 5, 6, 7, 8, 9, 10, 11, 12, 13, 14, 15, 16, 17, 18, 19, 20, 21, 22

## IDC12
designator P?
pins: 1, 2, 3, 4, 5, 6, 7, 8, 9, 10, 11, 12, 13, 14, 15, 16, 17, 18, 19, 20, 21, 22, 23, 24

## IDC13
designator P?  (value not drawn)
pins: 1, 2, 3, 4, 5, 6, 7, 8, 9, 10, 11, 12, 13, 14, 15, 16, 17, 18, 19, 20, 21, 22, 23, 24, 25, 26

## IDC14
designator P?  (value not drawn)
pins: 1, 2, 3, 4, 5, 6, 7, 8, 9, 10, 11, 12, 13, 14, 15, 16, 17, 18, 19, 20, 21, 22, 23, 24, 25, 26, 27, 28

## IDC15
designator P  (value not drawn)
pins: 1, 2, 3, 4, 5, 6, 7, 8, 9, 10, 11, 12, 13, 14, 15, 16, 17, 18, 19, 20, 21, 22, 23, 24, 25, 26, 27, 28, 29, 30

## IDC16
designator P?
pins: 1, 2, 3, 4, 5, 6, 7, 8, 9, 10, 11, 12, 13, 14, 15, 16, 17, 18, 19, 20, 21, 22, 23, 24, 25, 26, 27, 28, 29, 30, 31, 32

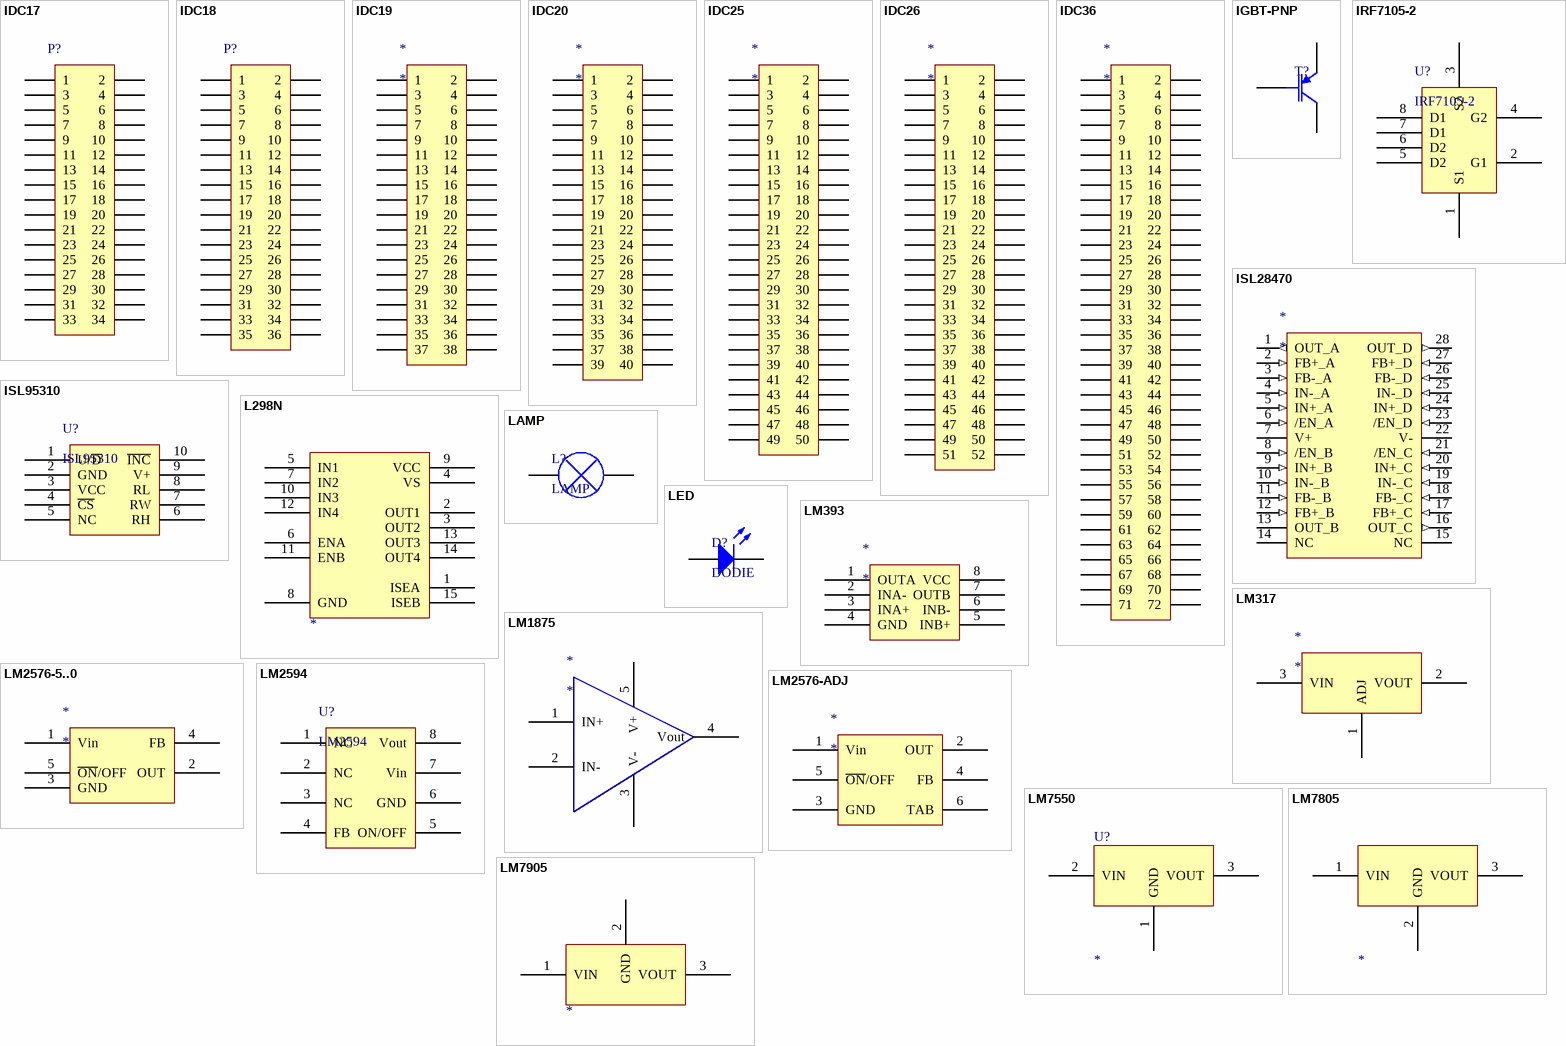
[diagram p4: symbols IDC17 to LM7905]

## IDC17
designator P?  (value not drawn)
pins: 1, 2, 3, 4, 5, 6, 7, 8, 9, 10, 11, 12, 13, 14, 15, 16, 17, 18, 19, 20, 21, 22, 23, 24, 25, 26, 27, 28, 29, 30, 31, 32, 33, 34

## IDC18
designator P?  (value not drawn)
pins: 1, 2, 3, 4, 5, 6, 7, 8, 9, 10, 11, 12, 13, 14, 15, 16, 17, 18, 19, 20, 21, 22, 23, 24, 25, 26, 27, 28, 29, 30, 31, 32, 33, 34, 35, 36

## IDC19
designator *
pins: 1, 2, 3, 4, 5, 6, 7, 8, 9, 10, 11, 12, 13, 14, 15, 16, 17, 18, 19, 20, 21, 22, 23, 24, 25, 26, 27, 28, 29, 30, 31, 32, 33, 34, 35, 36, ?1 37, ?2 38

## IDC20
designator *
pins: 1, 2, 3, 4, 5, 6, 7, 8, 9, 10, 11, 12, 13, 14, 15, 16, 17, 18, 19, 20, 21, 22, 23, 24, 25, 26, 27, 28, 29, 30, 31, 32, 33, 34, 35, 36, ?1 37, ?2 38, ?3 39, ?4 40

## IDC25
designator *
pins: 1, 2, 3, 4, 5, 6, 7, 8, 9, 10, 11, 12, 13, 14, 15, 16, 17, 18, 19, 20, 21, 22, 23, 24, 25, 26, 27, 28, 29, 30, 31, 32, 33, 34, 35, 36, 37, 38, 39, 40, 41, 42, 43, 44, 45, 46, 47, 48, 49, 50

## IDC26
designator *
pins: 1, 2, 3, 4, 5, 6, 7, 8, 9, 10, 11, 12, 13, 14, 15, 16, 17, 18, 19, 20, 21, 22, 23, 24, 25, 26, 27, 28, 29, 30, 31, 32, 33, 34, 35, 36, 37, 38, 39, 40, 41, 42, 43, 44, 45, 46, 47, 48, 49, 50, 51, 52

## IDC36
designator *
pins: 1, 2, 3, 4, 5, 6, 7, 8, 9, 10, 11, 12, 13, 14, 15, 16, 17, 18, 19, 20, 21, 22, 23, 24, 25, 26, 27, 28, 29, 30, 31, 32, 33, 34, 35, 36, 37, 38, 39, 40, 41, 42, 43, 44, 45, 46, 47, 48, 49, 50, 51, 52, 53, 54, 55, 56, 57, 58, 59, 60, 61, 62, 63, 64, 65, 66, 67, 68, 69, 70, 71, 72

## IGBT-PNP
designator T?, comment IGBT  (value not drawn)
pins: 1 C, 2 G, 3 E

## IRF7105-2
designator U?
pins: 1 S1, 2 G1, 3 S2, 4 G2, 5 D2, 6 D2, 7 D1, 8 D1

## ISL28470
designator *
pins: 1 OUT_A (out), 2 FB+_A (in), 3 FB-_A (in), 4 IN-_A (in), 5 IN+_A (in), 6 /EN_A (in), 7 V+ (power), 8 /EN_B (in), 9 IN+_B (in), 10 IN-_B (in), 11 FB-_B (in), 12 FB+_B (in), 13 OUT_B (power), 14 NC, 15 NC, 16 OUT_C (out), 17 FB+_C (in), 18 FB-_C (in), 19 IN-_C (in), 20 IN+_C (in), 21 /EN_C (in), 22 V- (power), 23 /EN_D (in), 24 IN+_D (in), 25 IN-_D (in), 26 FB-_D (in), 27 FB+_D (in), 28 OUT_D (out)

## ISL95310
designator U?
footprint Model Name (Footprint not found)
pins: 1 U/~{D}, 2 GND, 3 VCC, 4 ~{CS}, 5 NC, 6 RH, 7 RW, 8 RL, 9 V+, 10 ~{INC}

## L298N
designator ?
pins: 1 ISEA, 2 OUT1, 3 OUT2, 4 VS, 5 IN1, 6 ENA, 7 IN2, 8 GND, 9 VCC, 10 IN3, 11 ENB, 12 IN4, 13 OUT3, 14 OUT4, 15 ISEB

## LAMP
designator L?
pins: 1, 2

## LED
designator D?, comment DODIE
pins: 1, 2

## LM317
designator *
pins: 1 ADJ, 2 VOUT, 3 VIN

## LM393
designator *
pins: 1 OUTA, 2 INA-, 3 INA+, 4 GND, 5 INB+, 6 INB-, 7 OUTB, 8 VCC

## LM1875
designator *
pins: 1 IN+, 2 IN-, 3 V-, 4 Vout, 5 V+

## LM2576-5..0
designator *
pins: 1 Vin, 2 OUT, 3 GND, 4 FB, 5 ~{ON}/OFF

## LM2576-ADJ
designator *
pins: 1 Vin, 2 OUT, 3 GND, 4 FB, 5 ~{ON}/OFF, 6 TAB

## LM2594
designator U?
pins: 1 NC, 2 NC, 3 NC, 4 FB, 5 ON/OFF, 6 GND, 7 Vin, 8 Vout

## LM7550
designator U?
pins: 1 GND, 2 VIN, 3 VOUT

## LM7805
designator ?
pins: 1 VIN, 2 GND, 3 VOUT

## LM7905
designator ?
pins: 1 VIN, 2 GND, 3 VOUT

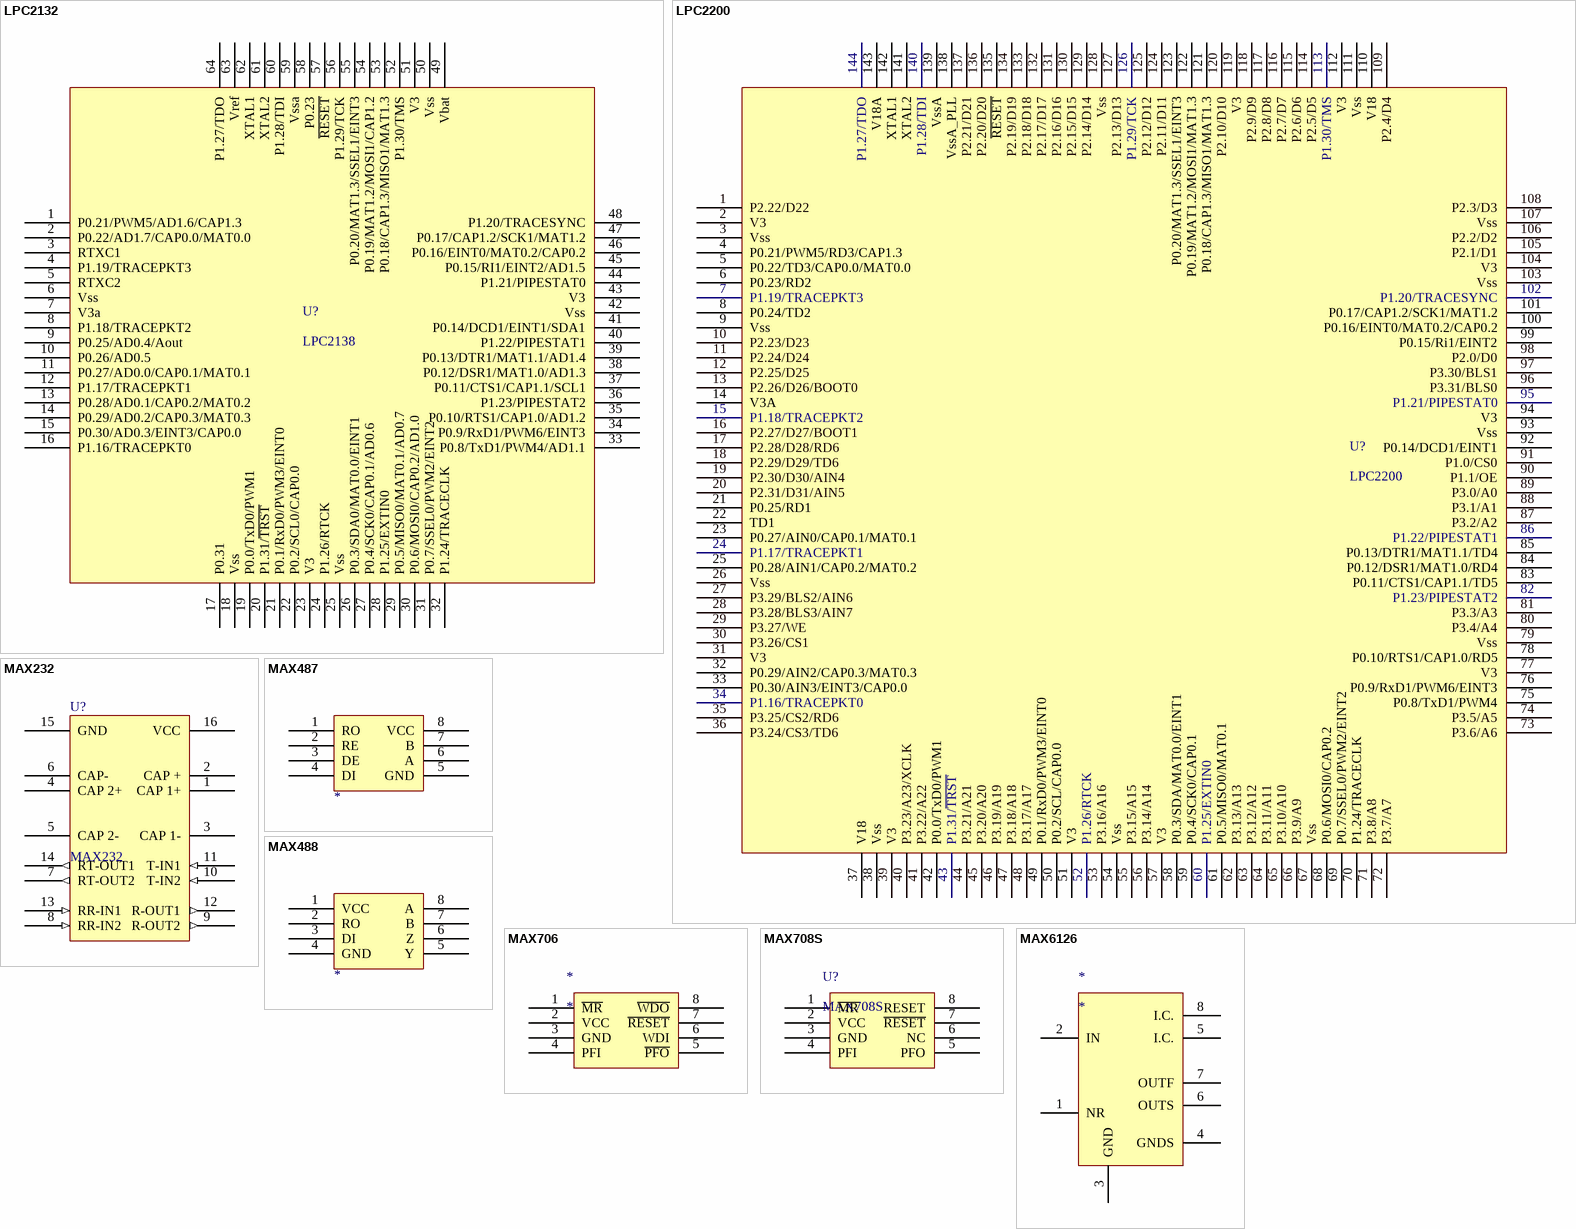
[diagram p5: symbols LPC2132 to MAX6126]

## LPC2132
designator U?, comment LPC2138
pins: 1 P0.21/PWM5/AD1.6/CAP1.3, 2 P0.22/AD1.7/CAP0.0/MAT0.0, 3 RTXC1, 4 P1.19/TRACEPKT3, 5 RTXC2, 6 Vss, 7 V3a, 8 P1.18/TRACEPKT2, 9 P0.25/AD0.4/Aout, 10 P0.26/AD0.5, 11 P0.27/AD0.0/CAP0.1/MAT0.1, 12 P1.17/TRACEPKT1, 13 P0.28/AD0.1/CAP0.2/MAT0.2, 14 P0.29/AD0.2/CAP0.3/MAT0.3, 15 P0.30/AD0.3/EINT3/CAP0.0, 16 P1.16/TRACEPKT0, 17 P0.31, 18 Vss, 19 P0.0/TxD0/PWM1, 20 P1.31/~{TRST}, 21 P0.1/RxD0/PWM3/EINT0, 22 P0.2/SCL0/CAP0.0, 23 V3, 24 P1.26/RTCK, 25 Vss, 26 P0.3/SDA0/MAT0.0/EINT1, 27 P0.4/SCK0/CAP0.1/AD0.6, 28 P1.25/EXTIN0, 29 P0.5/MISO0/MAT0.1/AD0.7, 30 P0.6/MOSI0/CAP0.2/AD1.0, 31 P0.7/SSEL0/PWM2/EINT2, 32 P1.24/TRACECLK, 33 P0.8/TxD1/PWM4/AD1.1, 34 P0.9/RxD1/PWM6/EINT3, 35 P0.10/RTS1/CAP1.0/AD1.2, 36 P1.23/PIPESTAT2, 37 P0.11/CTS1/CAP1.1/SCL1, 38 P0.12/DSR1/MAT1.0/AD1.3, 39 P0.13/DTR1/MAT1.1/AD1.4, 40 P1.22/PIPESTAT1, 41 P0.14/DCD1/EINT1/SDA1, 42 Vss, 43 V3, 44 P1.21/PIPESTAT0, 45 P0.15/RI1/EINT2/AD1.5, 46 P0.16/EINT0/MAT0.2/CAP0.2, 47 P0.17/CAP1.2/SCK1/MAT1.2, 48 P1.20/TRACESYNC, 49 Vbat, 50 Vss, 51 V3, 52 P1.30/TMS, 53 P0.18/CAP1.3/MISO1/MAT1.3, 54 P0.19/MAT1.2/MOSI1/CAP1.2, 55 P0.20/MAT1.3/SSEL1/EINT3, 56 P1.29/TCK, 57 ~{RESET}, 58 P0.23, 59 Vssa, 60 P1.28/TDI, 61 XTAL2, 62 XTAL1, 63 Vref, 64 P1.27/TDO

## LPC2200
designator U?
pins: 1 P2.22/D22, 2 V3, 3 Vss, 4 P0.21/PWM5/RD3/CAP1.3, 5 P0.22/TD3/CAP0.0/MAT0.0, 6 P0.23/RD2, 7 P1.19/TRACEPKT3, 8 P0.24/TD2, 9 Vss, 10 P2.23/D23, 11 P2.24/D24, 12 P2.25/D25, 13 P2.26/D26/BOOT0, 14 V3A, 15 P1.18/TRACEPKT2, 16 P2.27/D27/BOOT1, 17 P2.28/D28/RD6, 18 P2.29/D29/TD6, 19 P2.30/D30/AIN4, 20 P2.31/D31/AIN5, 21 P0.25/RD1, 22 TD1, 23 P0.27/AIN0/CAP0.1/MAT0.1, 24 P1.17/TRACEPKT1, 25 P0.28/AIN1/CAP0.2/MAT0.2, 26 Vss, 27 P3.29/BLS2/AIN6, 28 P3.28/BLS3/AIN7, 29 P3.27/WE, 30 P3.26/CS1, 31 V3, 32 P0.29/AIN2/CAP0.3/MAT0.3, 33 P0.30/AIN3/EINT3/CAP0.0, 34 P1.16/TRACEPKT0, 35 P3.25/CS2/RD6, 36 P3.24/CS3/TD6, 37 V18, 38 Vss, 39 V3, 40 P3.23/A23/XCLK, 41 P3.22/A22, 42 P0.0/TxD0/PWM1, 43 P1.31/~{TRST}, 44 P3.21/A21, 45 P3.20/A20, 46 P3.19/A19, 47 P3.18/A18, 48 P3.17/A17, 49 P0.1/RxD0/PWM3/EINT0, 50 P0.2/SCL/CAP0.0, 51 V3, 52 P1.26/RTCK, 53 P3.16/A16, 54 Vss, 55 P3.15/A15, 56 P3.14/A14, 57 V3, 58 P0.3/SDA/MAT0.0/EINT1, 59 P0.4/SCK0/CAP0.1, 60 P1.25/EXTIN0, 61 P0.5/MISO0/MAT0.1, 62 P3.13/A13, 63 P3.12/A12, 64 P3.11/A11, 65 P3.10/A10, 66 P3.9/A9, 67 Vss, 68 P0.6/MOSI0/CAP0.2, 69 P0.7/SSEL0/PWM2/EINT2, 70 P1.24/TRACECLK, 71 P3.8/A8, 72 P3.7/A7, 73 P3.6/A6, 74 P3.5/A5, 75 P0.8/TxD1/PWM4, 76 P0.9/RxD1/PWM6/EINT3, 77 V3, 78 P0.10/RTS1/CAP1.0/RD5, 79 Vss, 80 P3.4/A4, 81 P3.3/A3, 82 P1.23/PIPESTAT2, 83 P0.11/CTS1/CAP1.1/TD5, 84 P0.12/DSR1/MAT1.0/RD4, 85 P0.13/DTR1/MAT1.1/TD4, 86 P1.22/PIPESTAT1, 87 P3.2/A2, 88 P3.1/A1, 89 P3.0/A0, 90 P1.1/OE, 91 P1.0/CS0, 92 P0.14/DCD1/EINT1, 93 Vss, 94 V3, 95 P1.21/PIPESTAT0, 96 P3.31/BLS0, 97 P3.30/BLS1, 98 P2.0/D0, 99 P0.15/Ri1/EINT2, 100 P0.16/EINT0/MAT0.2/CAP0.2, 101 P0.17/CAP1.2/SCK1/MAT1.2, 102 P1.20/TRACESYNC, 103 Vss, 104 V3, 105 P2.1/D1, 106 P2.2/D2, 107 Vss, 108 P2.3/D3, 109 P2.4/D4, 110 V18, 111 Vss, 112 V3, 113 P1.30/TMS, 114 P2.5/D5, 115 P2.6/D6, 116 P2.7/D7, 117 P2.8/D8, 118 P2.9/D9, 119 V3, 120 P2.10/D10, 121 P0.18/CAP1.3/MISO1/MAT1.3, 122 P0.19/MAT1.2/MOSI1/MAT1.3, 123 P0.20/MAT1.3/SSEL1/EINT3, 124 P2.11/D11, 125 P2.12/D12, 126 P1.29/TCK, 127 P2.13/D13, 128 Vss, 129 P2.14/D14, 130 P2.15/D15, 131 P2.16/D16, 132 P2.17/D17, 133 P2.18/D18, 134 P2.19/D19, 135 ~{RESET}, 136 P2.20/D20, 137 P2.21/D21, 138 VssA_PLL, 139 VssA, 140 P1.28/TDI, 141 XTAL2, 142 XTAL1, 143 V18A, 144 P1.27/TDO

## MAX232
designator U?
pins: 1 CAP 1+, 2 CAP +, 3 CAP 1-, 4 CAP 2+, 5 CAP 2-, 6 CAP-, 7 RT-OUT2 (out), 8 RR-IN2 (in), 9 R-OUT2 (out), 10 T-IN2 (in), 11 T-IN1 (in), 12 R-OUT1 (out), 13 RR-IN1 (in), 14 RT-OUT1 (out), 15 GND (power), 16 VCC (power)

## MAX487
designator ?
pins: 1 RO, 2 RE, 3 DE, 4 DI, 5 GND, 6 A, 7 B, 8 VCC

## MAX488
designator ?
pins: 1 VCC, 2 RO, 3 DI, 4 GND, 5 Y, 6 Z, 7 B, 8 A

## MAX706
designator *
pins: 1 ~{MR}, 2 VCC, 3 GND, 4 PFI, 5 ~{PFO}, 6 WDI, 7 ~{RESET}, 8 ~{WDO}

## MAX708S
designator U?
pins: 1 ~{MR}, 2 VCC, 3 GND, 4 PFI, 5 PFO, 6 NC, 7 ~{RESET}, 8 RESET

## MAX6126
designator *
pins: 1 NR, 2 IN, 3 GND, 4 GNDS, 5 I.C., 6 OUTS, 7 OUTF, 8 I.C.

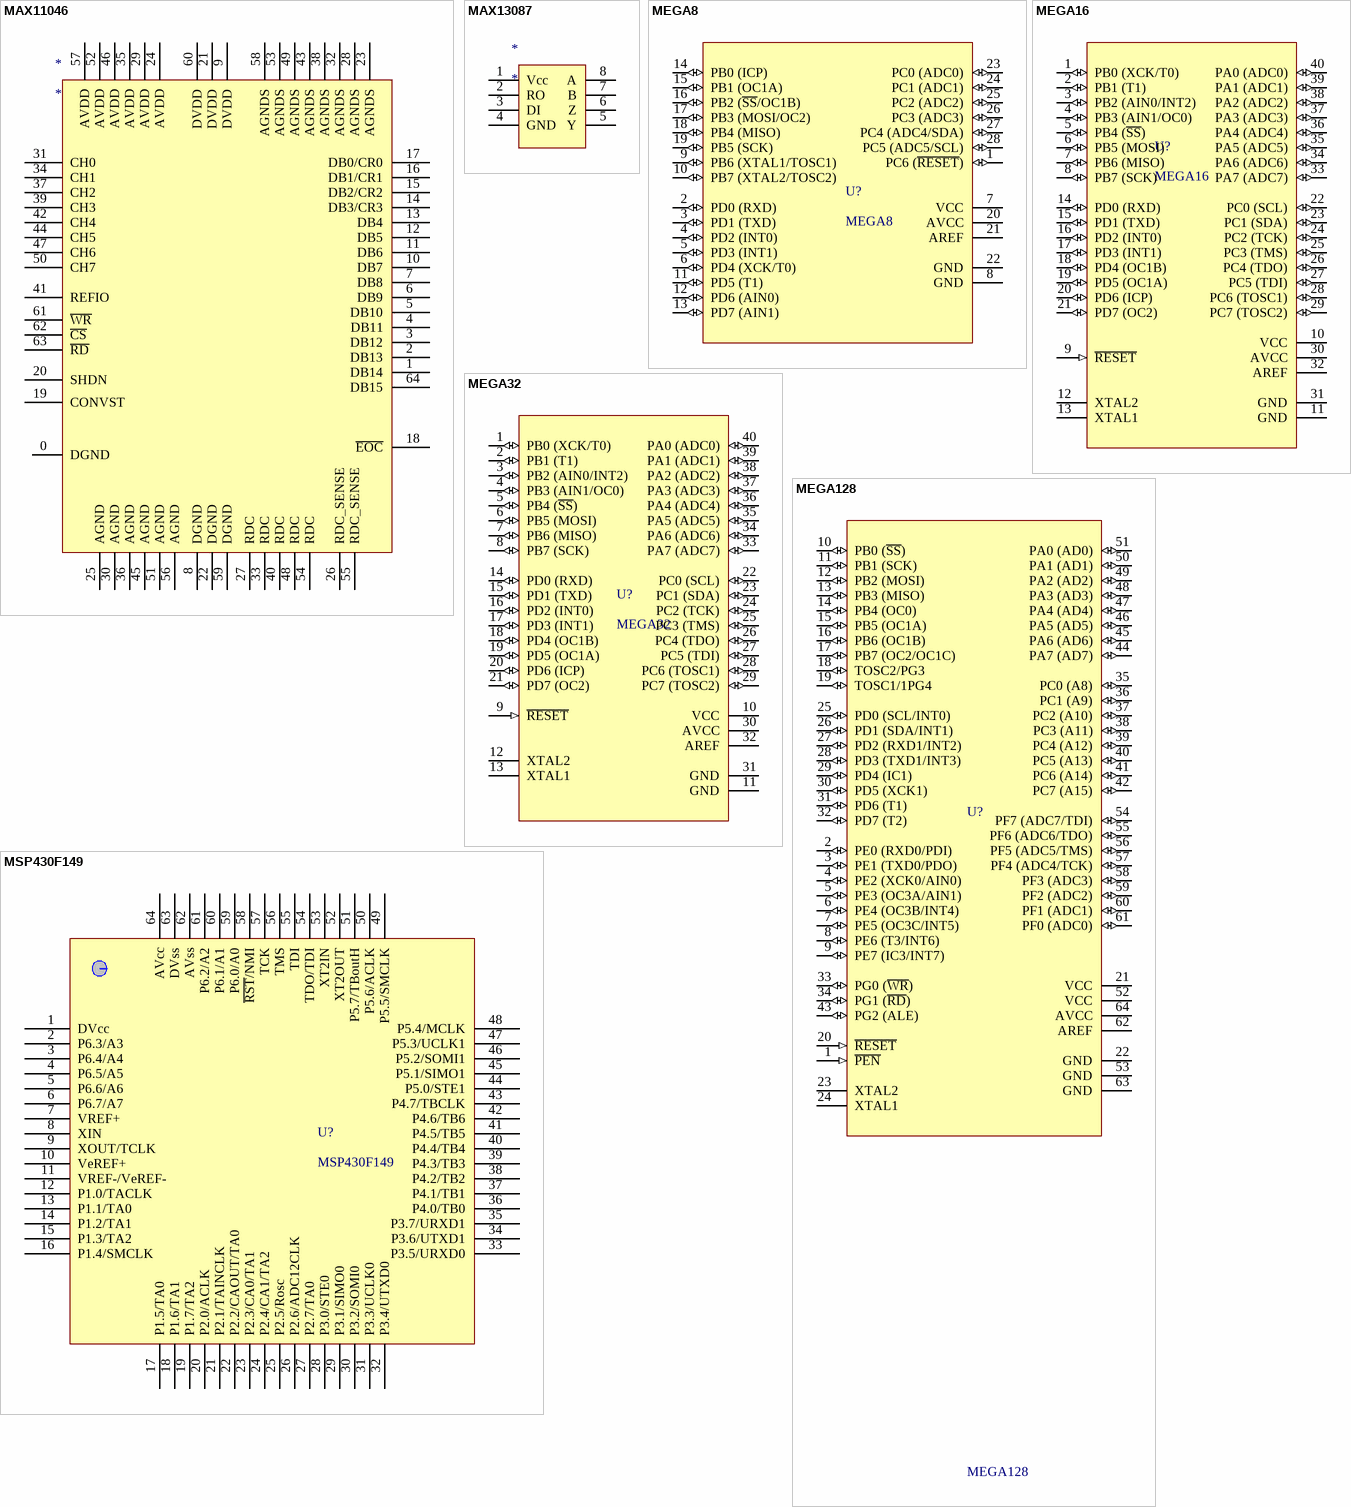
[diagram p6: symbols MAX11046 to MSP430F149]

## MAX11046
designator *
pins: 0 DGND, 1 DB14, 2 DB13, 3 DB12, 4 DB11, 5 DB10, 6 DB9, 7 DB8, 8 DGND, 9 DVDD, 10 DB7, 11 DB6, 12 DB5, 13 DB4, 14 DB3/CR3, 15 DB2/CR2, 16 DB1/CR1, 17 DB0/CR0, 18 ~{EOC}, 19 CONVST, 20 SHDN, 21 DVDD, 22 DGND, 23 AGNDS, 24 AVDD, 25 AGND, 26 RDC_SENSE, 27 RDC, 28 AGNDS, 29 AVDD, 30 AGND, 31 CH0, 32 AGNDS, 33 RDC, 34 CH1, 35 AVDD, 36 AGND, 37 CH2, 38 AGNDS, 39 CH3, 40 RDC, 41 REFIO, 42 CH4, 43 AGNDS, 44 CH5, 45 AGND, 46 AVDD, 47 CH6, 48 RDC, 49 AGNDS, 50 CH7, 51 AGND, 52 AVDD, 53 AGNDS, 54 RDC, 55 RDC_SENSE, 56 AGND, 57 AVDD, 58 AGNDS, 59 DGND, 60 DVDD, 61 ~{WR}, 62 ~{CS}, 63 ~{RD}, 64 DB15

## MAX13087
designator *
pins: 1 Vcc, 2 RO, 3 DI, 4 GND, 5 Y, 6 Z, 7 B, 8 A

## MEGA8
designator U?
pins: 1 PC6 (~{RESET}) (io), 2 PD0 (RXD) (io), 3 PD1 (TXD) (io), 4 PD2 (INT0) (io), 5 PD3 (INT1) (io), 6 PD4 (XCK/T0) (io), 7 VCC (power), 8 GND (power), 9 PB6 (XTAL1/TOSC1) (io), 10 PB7 (XTAL2/TOSC2) (io), 11 PD5 (T1) (io), 12 PD6 (AIN0) (io), 13 PD7 (AIN1) (io), 14 PB0 (ICP) (io), 15 PB1 (OC1A) (io), 16 PB2 (~{SS}/OC1B) (io), 17 PB3 (MOSI/OC2) (io), 18 PB4 (MISO) (io), 19 PB5 (SCK) (io), 20 AVCC (power), 21 AREF, 22 GND (power), 23 PC0 (ADC0) (io), 24 PC1 (ADC1) (io), 25 PC2 (ADC2) (io), 26 PC3 (ADC3) (io), 27 PC4 (ADC4/SDA) (io), 28 PC5 (ADC5/SCL) (io)

## MEGA16
designator U?
pins: 1 PB0 (XCK/T0) (io), 2 PB1 (T1) (io), 3 PB2 (AIN0/INT2) (io), 4 PB3 (AIN1/OC0) (io), 5 PB4 (~{SS}) (io), 6 PB5 (MOSI) (io), 7 PB6 (MISO) (io), 8 PB7 (SCK) (io), 9 ~{RESET} (in), 10 VCC (power), 11 GND (power), 12 XTAL2, 13 XTAL1, 14 PD0 (RXD) (io), 15 PD1 (TXD) (io), 16 PD2 (INT0) (io), 17 PD3 (INT1) (io), 18 PD4 (OC1B) (io), 19 PD5 (OC1A) (io), 20 PD6 (ICP) (io), 21 PD7 (OC2) (io), 22 PC0 (SCL) (io), 23 PC1 (SDA) (io), 24 PC2 (TCK) (io), 25 PC3 (TMS) (io), 26 PC4 (TDO) (io), 27 PC5 (TDI) (io), 28 PC6 (TOSC1) (io), 29 PC7 (TOSC2) (io), 30 AVCC (power), 31 GND (power), 32 AREF, 33 PA7 (ADC7) (io), 34 PA6 (ADC6) (io), 35 PA5 (ADC5) (io), 36 PA4 (ADC4) (io), 37 PA3 (ADC3) (io), 38 PA2 (ADC2) (io), 39 PA1 (ADC1) (io), 40 PA0 (ADC0) (io)

## MEGA32
designator U?
pins: 1 PB0 (XCK/T0) (io), 2 PB1 (T1) (io), 3 PB2 (AIN0/INT2) (io), 4 PB3 (AIN1/OC0) (io), 5 PB4 (~{SS}) (io), 6 PB5 (MOSI) (io), 7 PB6 (MISO) (io), 8 PB7 (SCK) (io), 9 ~{RESET} (in), 10 VCC (power), 11 GND (power), 12 XTAL2, 13 XTAL1, 14 PD0 (RXD) (io), 15 PD1 (TXD) (io), 16 PD2 (INT0) (io), 17 PD3 (INT1) (io), 18 PD4 (OC1B) (io), 19 PD5 (OC1A) (io), 20 PD6 (ICP) (io), 21 PD7 (OC2) (io), 22 PC0 (SCL) (io), 23 PC1 (SDA) (io), 24 PC2 (TCK) (io), 25 PC3 (TMS) (io), 26 PC4 (TDO) (io), 27 PC5 (TDI) (io), 28 PC6 (TOSC1) (io), 29 PC7 (TOSC2) (io), 30 AVCC (power), 31 GND (power), 32 AREF, 33 PA7 (ADC7) (io), 34 PA6 (ADC6) (io), 35 PA5 (ADC5) (io), 36 PA4 (ADC4) (io), 37 PA3 (ADC3) (io), 38 PA2 (ADC2) (io), 39 PA1 (ADC1) (io), 40 PA0 (ADC0) (io)

## MEGA128
designator U?
pins: 1 ~{PEN} (in), 2 PE0 (RXD0/PDI) (io), 3 PE1 (TXD0/PDO) (io), 4 PE2 (XCK0/AIN0) (io), 5 PE3 (OC3A/AIN1) (io), 6 PE4 (OC3B/INT4) (io), 7 PE5 (OC3C/INT5) (io), 8 PE6 (T3/INT6) (io), 9 PE7 (IC3/INT7) (io), 10 PB0 (~{SS}) (io), 11 PB1 (SCK) (io), 12 PB2 (MOSI) (io), 13 PB3 (MISO) (io), 14 PB4 (OC0) (io), 15 PB5 (OC1A) (io), 16 PB6 (OC1B) (io), 17 PB7 (OC2/OC1C) (io), 18 TOSC2/PG3 (io), 19 TOSC1/1PG4 (io), 20 ~{RESET} (in), 21 VCC (power), 22 GND (power), 23 XTAL2, 24 XTAL1, 25 PD0 (SCL/INT0) (io), 26 PD1 (SDA/INT1) (io), 27 PD2 (RXD1/INT2) (io), 28 PD3 (TXD1/INT3) (io), 29 PD4 (IC1) (io), 30 PD5 (XCK1) (io), 31 PD6 (T1) (io), 32 PD7 (T2) (io), 33 PG0 (~{WR}) (io), 34 PG1 (~{RD}) (io), 35 PC0 (A8) (io), 36 PC1 (A9) (io), 37 PC2 (A10) (io), 38 PC3 (A11) (io), 39 PC4 (A12) (io), 40 PC5 (A13) (io), 41 PC6 (A14) (io), 42 PC7 (A15) (io), 43 PG2 (ALE) (io), 44 PA7 (AD7) (io), 45 PA6 (AD6) (io), 46 PA5 (AD5) (io), 47 PA4 (AD4) (io), 48 PA3 (AD3) (io), 49 PA2 (AD2) (io), 50 PA1 (AD1) (io), 51 PA0 (AD0) (io), 52 VCC (power), 53 GND (power), 54 PF7 (ADC7/TDI) (io), 55 PF6 (ADC6/TDO) (io), 56 PF5 (ADC5/TMS) (io), 57 PF4 (ADC4/TCK) (io), 58 PF3 (ADC3) (io), 59 PF2 (ADC2) (io), 60 PF1 (ADC1) (io), 61 PF0 (ADC0) (io), 62 AREF, 63 GND (power), 64 AVCC (power)

## MSP430F149
designator U?
pins: 1 DVcc, 2 P6.3/A3, 3 P6.4/A4, 4 P6.5/A5, 5 P6.6/A6, 6 P6.7/A7, 7 VREF+, 8 XIN, 9 XOUT/TCLK, 10 VeREF+, 11 VREF-/VeREF-, 12 P1.0/TACLK, 13 P1.1/TA0, 14 P1.2/TA1, 15 P1.3/TA2, 16 P1.4/SMCLK, 17 P1.5/TA0, 18 P1.6/TA1, 19 P1.7/TA2, 20 P2.0/ACLK, 21 P2.1/TAINCLK, 22 P2.2/CAOUT/TA0, 23 P2.3/CA0/TA1, 24 P2.4/CA1/TA2, 25 P2.5/Rosc, 26 P2.6/ADC12CLK, 27 P2.7/TA0, 28 P3.0/STE0, 29 P3.1/SIMO0, 30 P3.2/SOMI0, 31 P3.3/UCLK0, 32 P3.4/UTXD0, 33 P3.5/URXD0, 34 P3.6/UTXD1, 35 P3.7/URXD1, 36 P4.0/TB0, 37 P4.1/TB1, 38 P4.2/TB2, 39 P4.3/TB3, 40 P4.4/TB4, 41 P4.5/TB5, 42 P4.6/TB6, 43 P4.7/TBCLK, 44 P5.0/STE1, 45 P5.1/SIMO1, 46 P5.2/SOMI1, 47 P5.3/UCLK1, 48 P5.4/MCLK, 49 P5.5/SMCLK, 50 P5.6/ACLK, 51 P5.7/TBoutH, 52 XT2OUT, 53 XT2IN, 54 TDO/TDI, 55 TDI, 56 TMS, 57 TCK, 58 ~{RST}/NMI, 59 P6.0/A0, 60 P6.1/A1, 61 P6.2/A2, 62 AVss, 63 DVss, 64 AVcc

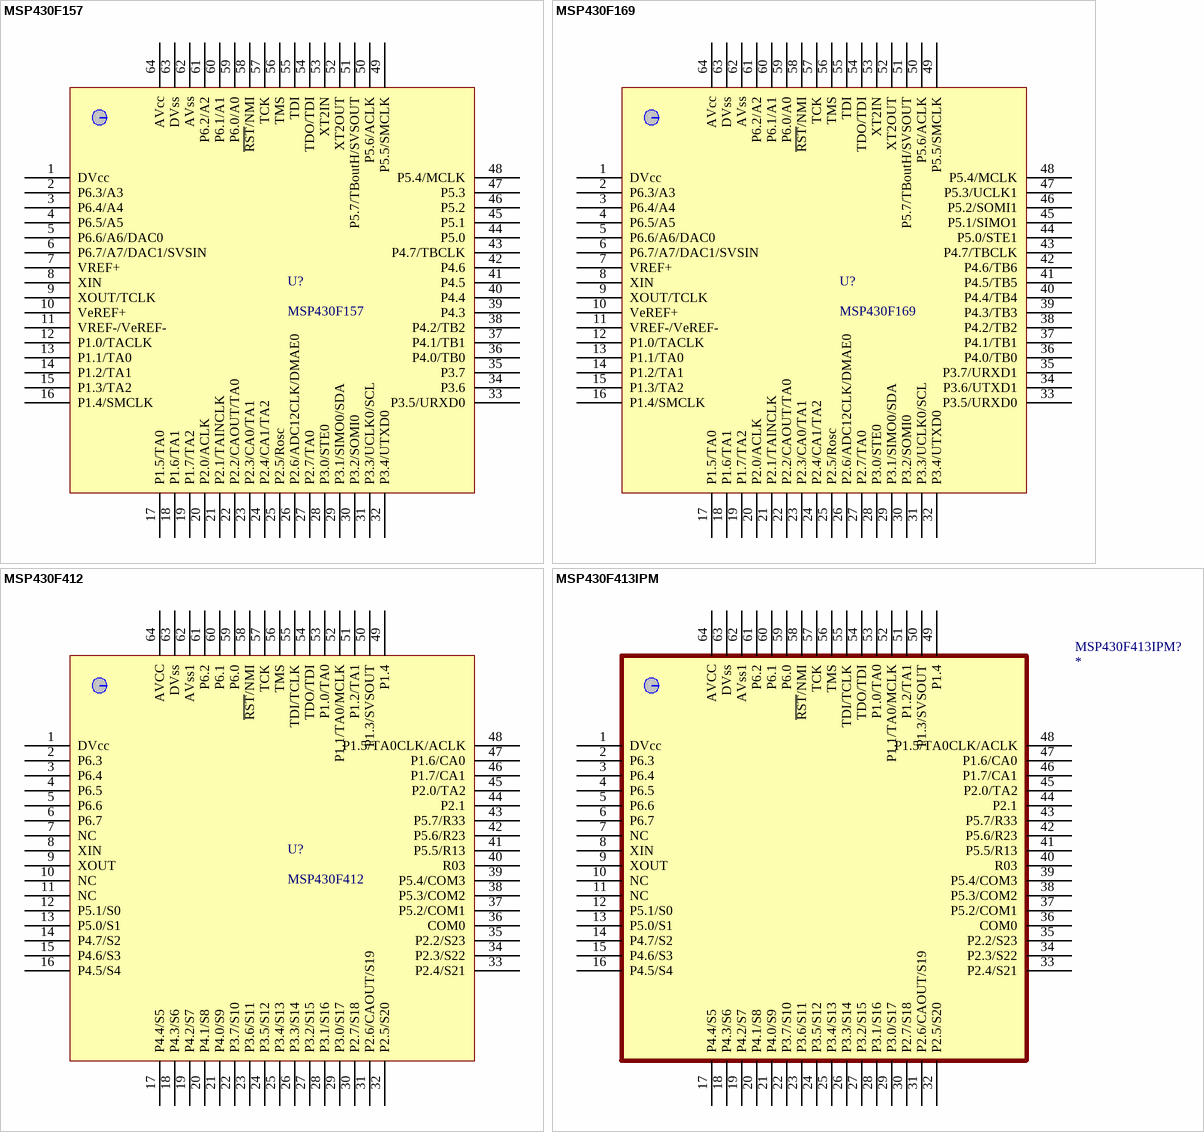
[diagram p7: symbols MSP430F157 to MSP430F413IPM]

## MSP430F157
designator U?
pins: 1 DVcc, 2 P6.3/A3, 3 P6.4/A4, 4 P6.5/A5, 5 P6.6/A6/DAC0, 6 P6.7/A7/DAC1/SVSIN, 7 VREF+, 8 XIN, 9 XOUT/TCLK, 10 VeREF+, 11 VREF-/VeREF-, 12 P1.0/TACLK, 13 P1.1/TA0, 14 P1.2/TA1, 15 P1.3/TA2, 16 P1.4/SMCLK, 17 P1.5/TA0, 18 P1.6/TA1, 19 P1.7/TA2, 20 P2.0/ACLK, 21 P2.1/TAINCLK, 22 P2.2/CAOUT/TA0, 23 P2.3/CA0/TA1, 24 P2.4/CA1/TA2, 25 P2.5/Rosc, 26 P2.6/ADC12CLK/DMAE0, 27 P2.7/TA0, 28 P3.0/STE0, 29 P3.1/SIMO0/SDA, 30 P3.2/SOMI0, 31 P3.3/UCLK0/SCL, 32 P3.4/UTXD0, 33 P3.5/URXD0, 34 P3.6, 35 P3.7, 36 P4.0/TB0, 37 P4.1/TB1, 38 P4.2/TB2, 39 P4.3, 40 P4.4, 41 P4.5, 42 P4.6, 43 P4.7/TBCLK, 44 P5.0, 45 P5.1, 46 P5.2, 47 P5.3, 48 P5.4/MCLK, 49 P5.5/SMCLK, 50 P5.6/ACLK, 51 P5.7/TBoutH/SVSOUT, 52 XT2OUT, 53 XT2IN, 54 TDO/TDI, 55 TDI, 56 TMS, 57 TCK, 58 ~{RST}/NMI, 59 P6.0/A0, 60 P6.1/A1, 61 P6.2/A2, 62 AVss, 63 DVss, 64 AVcc

## MSP430F169
designator U?
pins: 1 DVcc, 2 P6.3/A3, 3 P6.4/A4, 4 P6.5/A5, 5 P6.6/A6/DAC0, 6 P6.7/A7/DAC1/SVSIN, 7 VREF+, 8 XIN, 9 XOUT/TCLK, 10 VeREF+, 11 VREF-/VeREF-, 12 P1.0/TACLK, 13 P1.1/TA0, 14 P1.2/TA1, 15 P1.3/TA2, 16 P1.4/SMCLK, 17 P1.5/TA0, 18 P1.6/TA1, 19 P1.7/TA2, 20 P2.0/ACLK, 21 P2.1/TAINCLK, 22 P2.2/CAOUT/TA0, 23 P2.3/CA0/TA1, 24 P2.4/CA1/TA2, 25 P2.5/Rosc, 26 P2.6/ADC12CLK/DMAE0, 27 P2.7/TA0, 28 P3.0/STE0, 29 P3.1/SIMO0/SDA, 30 P3.2/SOMI0, 31 P3.3/UCLK0/SCL, 32 P3.4/UTXD0, 33 P3.5/URXD0, 34 P3.6/UTXD1, 35 P3.7/URXD1, 36 P4.0/TB0, 37 P4.1/TB1, 38 P4.2/TB2, 39 P4.3/TB3, 40 P4.4/TB4, 41 P4.5/TB5, 42 P4.6/TB6, 43 P4.7/TBCLK, 44 P5.0/STE1, 45 P5.1/SIMO1, 46 P5.2/SOMI1, 47 P5.3/UCLK1, 48 P5.4/MCLK, 49 P5.5/SMCLK, 50 P5.6/ACLK, 51 P5.7/TBoutH/SVSOUT, 52 XT2OUT, 53 XT2IN, 54 TDO/TDI, 55 TDI, 56 TMS, 57 TCK, 58 ~{RST}/NMI, 59 P6.0/A0, 60 P6.1/A1, 61 P6.2/A2, 62 AVss, 63 DVss, 64 AVcc

## MSP430F412
designator U?
pins: 1 DVcc, 2 P6.3, 3 P6.4, 4 P6.5, 5 P6.6, 6 P6.7, 7 NC, 8 XIN, 9 XOUT, 10 NC, 11 NC, 12 P5.1/S0, 13 P5.0/S1, 14 P4.7/S2, 15 P4.6/S3, 16 P4.5/S4, 17 P4.4/S5, 18 P4.3/S6, 19 P4.2/S7, 20 P4.1/S8, 21 P4.0/S9, 22 P3.7/S10, 23 P3.6/S11, 24 P3.5/S12, 25 P3.4/S13, 26 P3.3/S14, 27 P3.2/S15, 28 P3.1/S16, 29 P3.0/S17, 30 P2.7/S18, 31 P2.6/CAOUT/S19, 32 P2.5/S20, 33 P2.4/S21, 34 P2.3/S22, 35 P2.2/S23, 36 COM0, 37 P5.2/COM1, 38 P5.3/COM2, 39 P5.4/COM3, 40 R03, 41 P5.5/R13, 42 P5.6/R23, 43 P5.7/R33, 44 P2.1, 45 P2.0/TA2, 46 P1.7/CA1, 47 P1.6/CA0, 48 P1.5/TA0CLK/ACLK, 49 P1.4, 50 P1.3/SVSOUT, 51 P1.2/TA1, 52 P1.1/TA0/MCLK, 53 P1.0/TA0, 54 TDO/TDI, 55 TDI/TCLK, 56 TMS, 57 TCK, 58 ~{RST}/NMI, 59 P6.0, 60 P6.1, 61 P6.2, 62 AVss1, 63 DVss, 64 AVCC

## MSP430F413IPM
designator MSP430F413IPM?
MSP430F413IPM
footprint PM
pins: 1 DVcc, 2 P6.3, 3 P6.4, 4 P6.5, 5 P6.6, 6 P6.7, 7 NC, 8 XIN, 9 XOUT, 10 NC, 11 NC, 12 P5.1/S0, 13 P5.0/S1, 14 P4.7/S2, 15 P4.6/S3, 16 P4.5/S4, 17 P4.4/S5, 18 P4.3/S6, 19 P4.2/S7, 20 P4.1/S8, 21 P4.0/S9, 22 P3.7/S10, 23 P3.6/S11, 24 P3.5/S12, 25 P3.4/S13, 26 P3.3/S14, 27 P3.2/S15, 28 P3.1/S16, 29 P3.0/S17, 30 P2.7/S18, 31 P2.6/CAOUT/S19, 32 P2.5/S20, 33 P2.4/S21, 34 P2.3/S22, 35 P2.2/S23, 36 COM0, 37 P5.2/COM1, 38 P5.3/COM2, 39 P5.4/COM3, 40 R03, 41 P5.5/R13, 42 P5.6/R23, 43 P5.7/R33, 44 P2.1, 45 P2.0/TA2, 46 P1.7/CA1, 47 P1.6/CA0, 48 P1.5/TA0CLK/ACLK, 49 P1.4, 50 P1.3/SVSOUT, 51 P1.2/TA1, 52 P1.1/TA0/MCLK, 53 P1.0/TA0, 54 TDO/TDI, 55 TDI/TCLK, 56 TMS, 57 TCK, 58 ~{RST}/NMI, 59 P6.0, 60 P6.1, 61 P6.2, 62 AVss1, 63 DVss, 64 AVCC

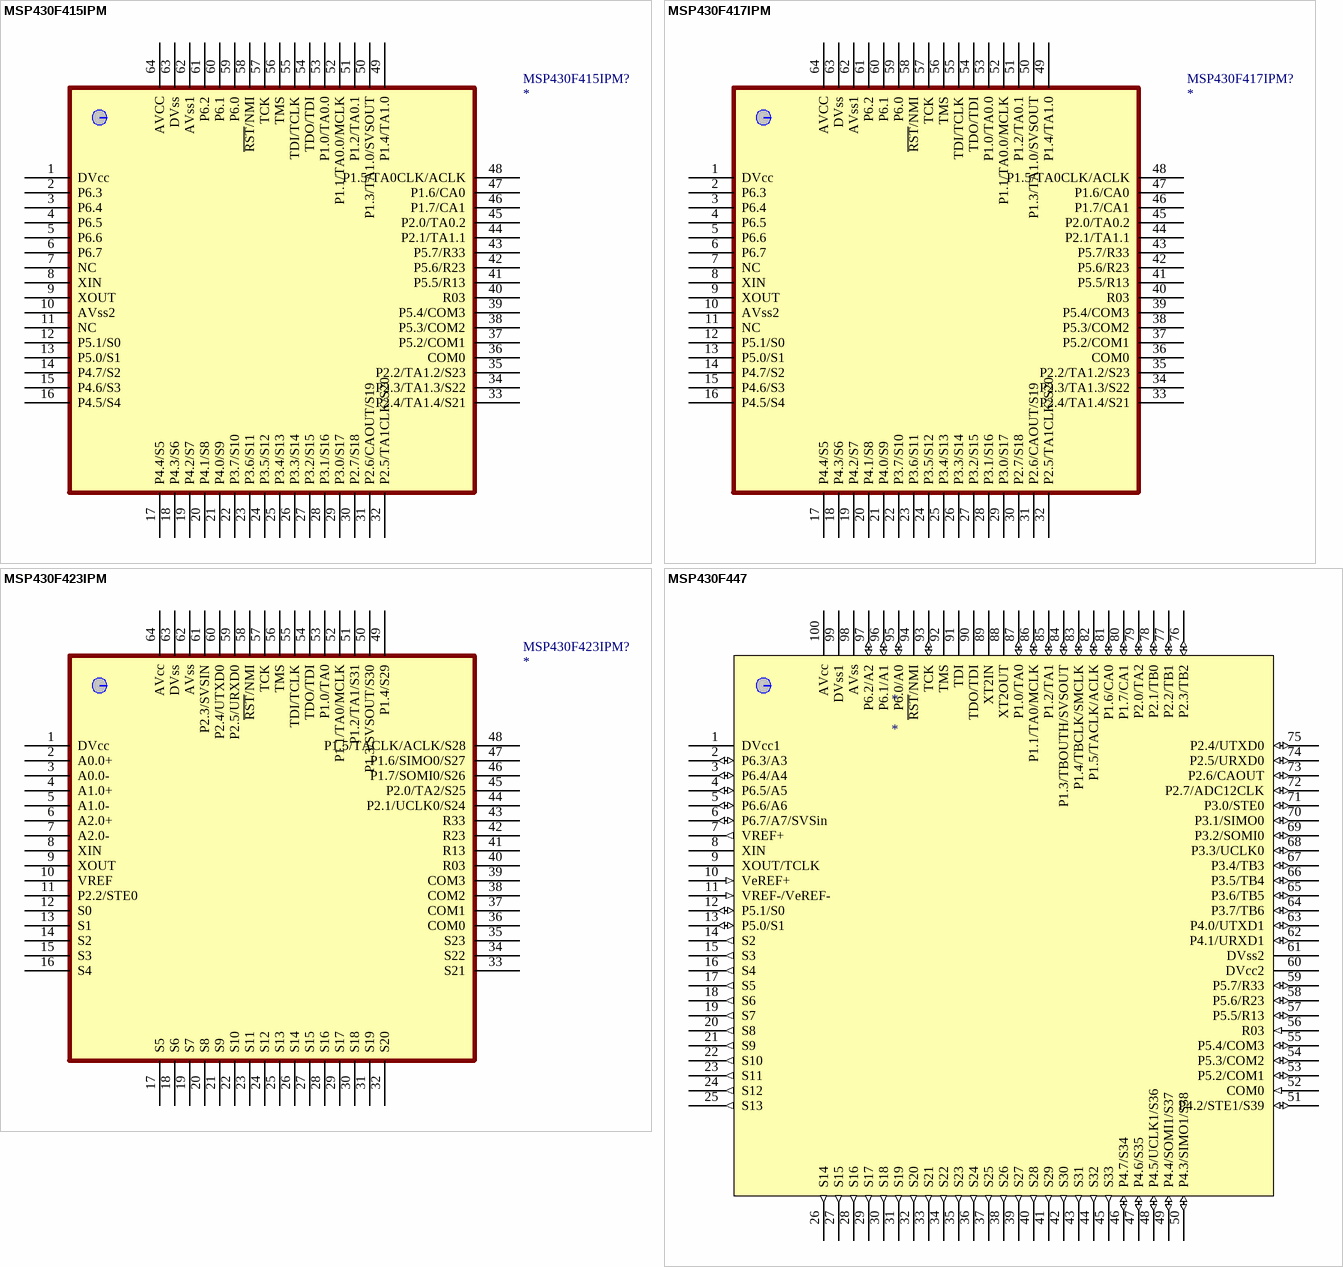
[diagram p8: symbols MSP430F415IPM to MSP430F447]

## MSP430F415IPM
designator MSP430F415IPM?
MSP430F415IPM
footprint PM
pins: 1 DVcc, 2 P6.3, 3 P6.4, 4 P6.5, 5 P6.6, 6 P6.7, 7 NC, 8 XIN, 9 XOUT, 10 AVss2, 11 NC, 12 P5.1/S0, 13 P5.0/S1, 14 P4.7/S2, 15 P4.6/S3, 16 P4.5/S4, 17 P4.4/S5, 18 P4.3/S6, 19 P4.2/S7, 20 P4.1/S8, 21 P4.0/S9, 22 P3.7/S10, 23 P3.6/S11, 24 P3.5/S12, 25 P3.4/S13, 26 P3.3/S14, 27 P3.2/S15, 28 P3.1/S16, 29 P3.0/S17, 30 P2.7/S18, 31 P2.6/CAOUT/S19, 32 P2.5/TA1CLK/S20, 33 P2.4/TA1.4/S21, 34 P2.3/TA1.3/S22, 35 P2.2/TA1.2/S23, 36 COM0, 37 P5.2/COM1, 38 P5.3/COM2, 39 P5.4/COM3, 40 R03, 41 P5.5/R13, 42 P5.6/R23, 43 P5.7/R33, 44 P2.1/TA1.1, 45 P2.0/TA0.2, 46 P1.7/CA1, 47 P1.6/CA0, 48 P1.5/TA0CLK/ACLK, 49 P1.4/TA1.0, 50 P1.3/TA1.0/SVSOUT, 51 P1.2/TA0.1, 52 P1.1/TA0.0/MCLK, 53 P1.0/TA0.0, 54 TDO/TDI, 55 TDI/TCLK, 56 TMS, 57 TCK, 58 ~{RST}/NMI, 59 P6.0, 60 P6.1, 61 P6.2, 62 AVss1, 63 DVss, 64 AVCC

## MSP430F417IPM
designator MSP430F417IPM?
MSP430F417IPM
footprint PM
pins: 1 DVcc, 2 P6.3, 3 P6.4, 4 P6.5, 5 P6.6, 6 P6.7, 7 NC, 8 XIN, 9 XOUT, 10 AVss2, 11 NC, 12 P5.1/S0, 13 P5.0/S1, 14 P4.7/S2, 15 P4.6/S3, 16 P4.5/S4, 17 P4.4/S5, 18 P4.3/S6, 19 P4.2/S7, 20 P4.1/S8, 21 P4.0/S9, 22 P3.7/S10, 23 P3.6/S11, 24 P3.5/S12, 25 P3.4/S13, 26 P3.3/S14, 27 P3.2/S15, 28 P3.1/S16, 29 P3.0/S17, 30 P2.7/S18, 31 P2.6/CAOUT/S19, 32 P2.5/TA1CLK/S20, 33 P2.4/TA1.4/S21, 34 P2.3/TA1.3/S22, 35 P2.2/TA1.2/S23, 36 COM0, 37 P5.2/COM1, 38 P5.3/COM2, 39 P5.4/COM3, 40 R03, 41 P5.5/R13, 42 P5.6/R23, 43 P5.7/R33, 44 P2.1/TA1.1, 45 P2.0/TA0.2, 46 P1.7/CA1, 47 P1.6/CA0, 48 P1.5/TA0CLK/ACLK, 49 P1.4/TA1.0, 50 P1.3/TA1.0/SVSOUT, 51 P1.2/TA0.1, 52 P1.1/TA0.0/MCLK, 53 P1.0/TA0.0, 54 TDO/TDI, 55 TDI/TCLK, 56 TMS, 57 TCK, 58 ~{RST}/NMI, 59 P6.0, 60 P6.1, 61 P6.2, 62 AVss1, 63 DVss, 64 AVCC

## MSP430F423IPM
designator MSP430F423IPM?
MSP430F423IPM
footprint PM
pins: 1 DVcc, 2 A0.0+, 3 A0.0-, 4 A1.0+, 5 A1.0-, 6 A2.0+, 7 A2.0-, 8 XIN, 9 XOUT, 10 VREF, 11 P2.2/STE0, 12 S0, 13 S1, 14 S2, 15 S3, 16 S4, 17 S5, 18 S6, 19 S7, 20 S8, 21 S9, 22 S10, 23 S11, 24 S12, 25 S13, 26 S14, 27 S15, 28 S16, 29 S17, 30 S18, 31 S19, 32 S20, 33 S21, 34 S22, 35 S23, 36 COM0, 37 COM1, 38 COM2, 39 COM3, 40 R03, 41 R13, 42 R23, 43 R33, 44 P2.1/UCLK0/S24, 45 P2.0/TA2/S25, 46 P1.7/SOMI0/S26, 47 P1.6/SIMO0/S27, 48 P1.5/TACLK/ACLK/S28, 49 P1.4/S29, 50 P1.3/SVSOUT/S30, 51 P1.2/TA1/S31, 52 P1.1/TA0/MCLK, 53 P1.0/TA0, 54 TDO/TDI, 55 TDI/TCLK, 56 TMS, 57 TCK, 58 ~{RST}/NMI, 59 P2.5/URXD0, 60 P2.4/UTXD0, 61 P2.3/SVSIN, 62 AVss, 63 DVss, 64 AVcc

## MSP430F447
designator *
pins: 1 DVcc1 (power), 2 P6.3/A3 (io), 3 P6.4/A4 (io), 4 P6.5/A5 (io), 5 P6.6/A6 (io), 6 P6.7/A7/SVSin (io), 7 VREF+ (out), 8 XIN, 9 XOUT/TCLK, 10 VeREF+ (in), 11 VREF-/VeREF- (in), 12 P5.1/S0 (io), 13 P5.0/S1 (io), 14 S2 (out), 15 S3 (out), 16 S4 (out), 17 S5 (out), 18 S6 (out), 19 S7 (out), 20 S8 (out), 21 S9 (out), 22 S10 (out), 23 S11 (out), 24 S12 (out), 25 S13 (out), 26 S14 (out), 27 S15 (out), 28 S16 (out), 29 S17 (out), 30 S18 (out), 31 S19 (out), 32 S20 (out), 33 S21 (out), 34 S22 (out), 35 S23 (out), 36 S24 (out), 37 S25 (out), 38 S26 (out), 39 S27 (out), 40 S28 (out), 41 S29 (out), 42 S30 (out), 43 S31 (out), 44 S32 (out), 45 S33 (out), 46 P4.7/S34 (io), 47 P4.6/S35 (io), 48 P4.5/UCLK1/S36 (io), 49 P4.4/SOMI1/S37 (io), 50 P4.3/SIMO1/S38 (io), 51 P4.2/STE1/S39 (io), 52 COM0 (in), 53 P5.2/COM1 (io), 54 P5.3/COM2 (io), 55 P5.4/COM3 (io), 56 R03 (in), 57 P5.5/R13 (io), 58 P5.6/R23 (io), 59 P5.7/R33 (io), 60 DVcc2, 61 DVss2, 62 P4.1/URXD1 (io), 63 P4.0/UTXD1 (io), 64 P3.7/TB6 (io), 65 P3.6/TB5 (io), 66 P3.5/TB4 (io), 67 P3.4/TB3 (io), 68 P3.3/UCLK0 (io), 69 P3.2/SOMI0 (io), 70 P3.1/SIMO0 (io), 71 P3.0/STE0 (io), 72 P2.7/ADC12CLK (io), 73 P2.6/CAOUT (io), 74 P2.5/URXD0 (io), 75 P2.4/UTXD0 (io), 76 P2.3/TB2 (io), 77 P2.2/TB1 (io), 78 P2.1/TB0 (io), 79 P2.0/TA2 (io), 80 P1.7/CA1 (io), 81 P1.6/CA0 (io), 82 P1.5/TACLK/ACLK (io), 83 P1.4/TBCLK/SMCLK (io), 84 P1.3/TBOUTH/SVSOUT (io), 85 P1.2/TA1 (io), 86 P1.1/TA0/MCLK (io), 87 P1.0/TA0 (io), 88 XT2OUT, 89 XT2IN, 90 TDO/TDI, 91 TDI, 92 TMS, 93 TCK (io), 94 ~{RST}/NMI, 95 P6.0/A0 (io), 96 P6.1/A1 (io), 97 P6.2/A2 (io), 98 AVss, 99 DVss1, 100 AVcc (power)

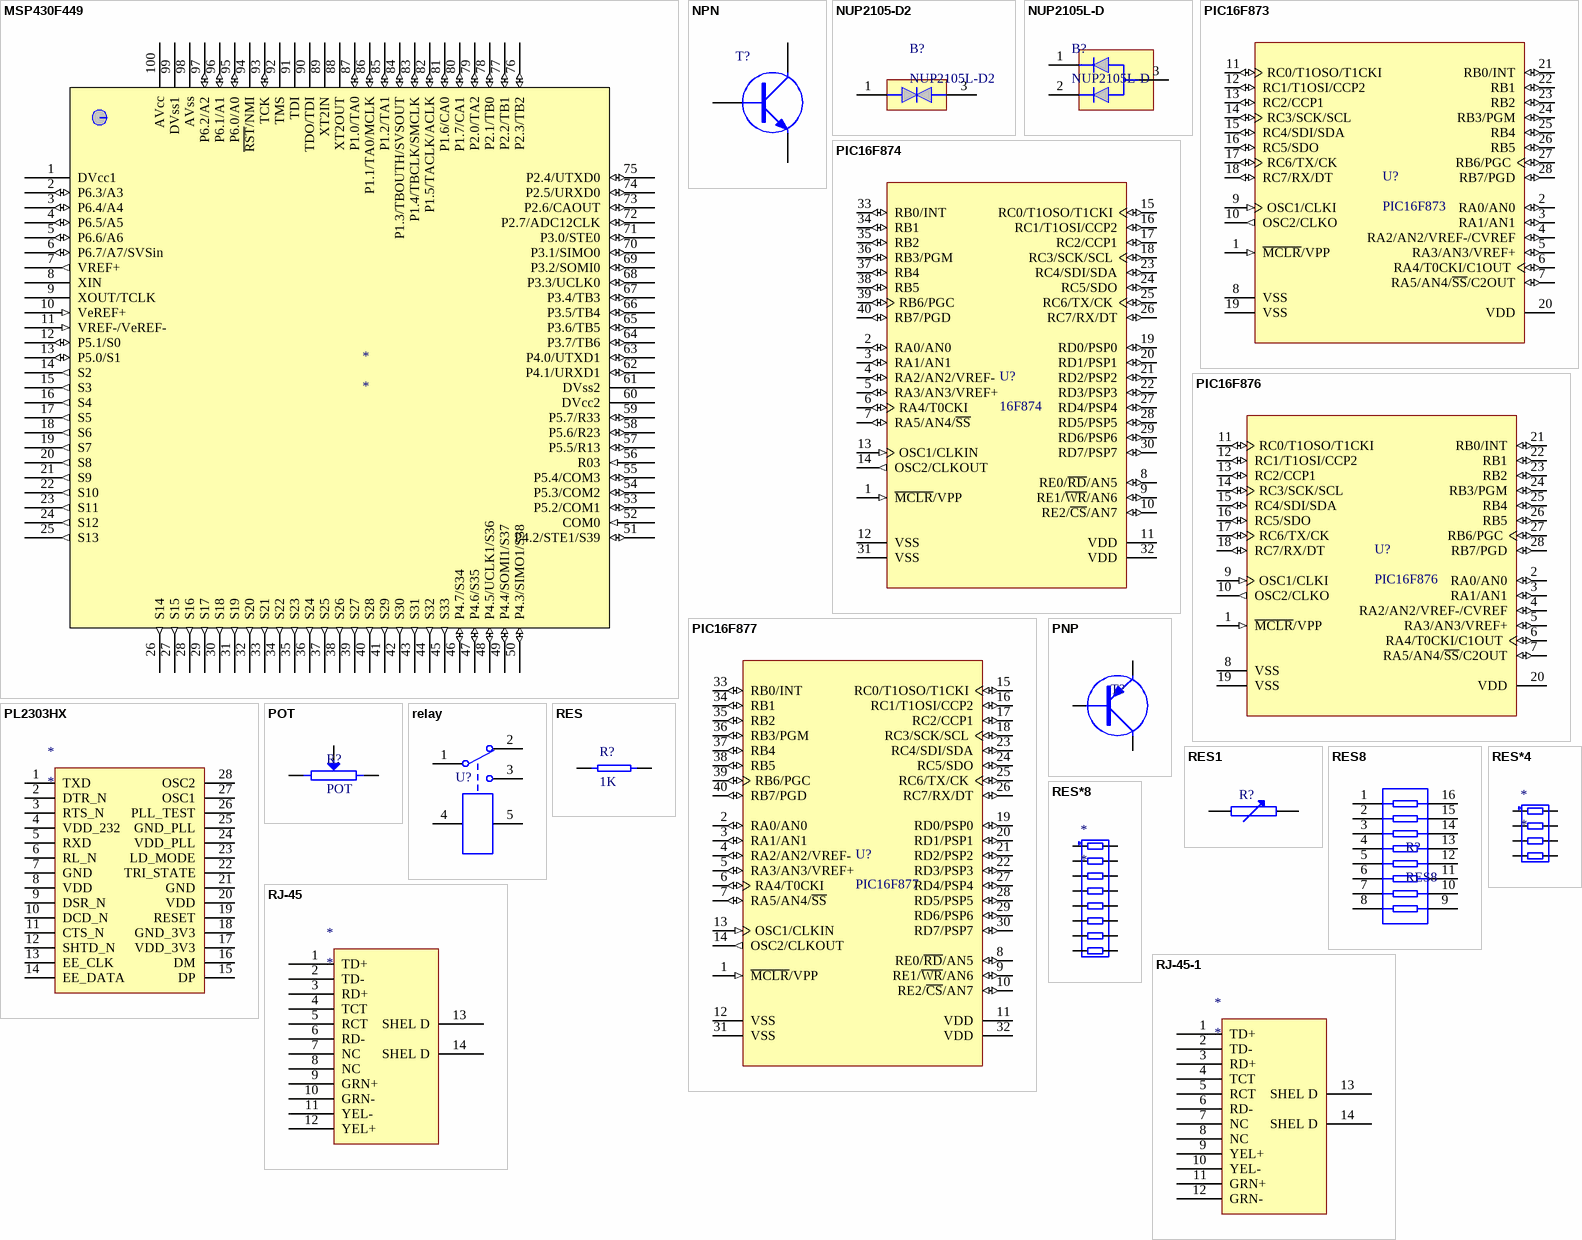
[diagram p9: symbols MSP430F449 to RJ-45-1]

## MSP430F449
designator *
pins: 1 DVcc1 (power), 2 P6.3/A3 (io), 3 P6.4/A4 (io), 4 P6.5/A5 (io), 5 P6.6/A6 (io), 6 P6.7/A7/SVSin (io), 7 VREF+ (out), 8 XIN, 9 XOUT/TCLK, 10 VeREF+ (in), 11 VREF-/VeREF- (in), 12 P5.1/S0 (io), 13 P5.0/S1 (io), 14 S2 (out), 15 S3 (out), 16 S4 (out), 17 S5 (out), 18 S6 (out), 19 S7 (out), 20 S8 (out), 21 S9 (out), 22 S10 (out), 23 S11 (out), 24 S12 (out), 25 S13 (out), 26 S14 (out), 27 S15 (out), 28 S16 (out), 29 S17 (out), 30 S18 (out), 31 S19 (out), 32 S20 (out), 33 S21 (out), 34 S22 (out), 35 S23 (out), 36 S24 (out), 37 S25 (out), 38 S26 (out), 39 S27 (out), 40 S28 (out), 41 S29 (out), 42 S30 (out), 43 S31 (out), 44 S32 (out), 45 S33 (out), 46 P4.7/S34 (io), 47 P4.6/S35 (io), 48 P4.5/UCLK1/S36 (io), 49 P4.4/SOMI1/S37 (io), 50 P4.3/SIMO1/S38 (io), 51 P4.2/STE1/S39 (io), 52 COM0 (in), 53 P5.2/COM1 (io), 54 P5.3/COM2 (io), 55 P5.4/COM3 (io), 56 R03 (in), 57 P5.5/R13 (io), 58 P5.6/R23 (io), 59 P5.7/R33 (io), 60 DVcc2, 61 DVss2, 62 P4.1/URXD1 (io), 63 P4.0/UTXD1 (io), 64 P3.7/TB6 (io), 65 P3.6/TB5 (io), 66 P3.5/TB4 (io), 67 P3.4/TB3 (io), 68 P3.3/UCLK0 (io), 69 P3.2/SOMI0 (io), 70 P3.1/SIMO0 (io), 71 P3.0/STE0 (io), 72 P2.7/ADC12CLK (io), 73 P2.6/CAOUT (io), 74 P2.5/URXD0 (io), 75 P2.4/UTXD0 (io), 76 P2.3/TB2 (io), 77 P2.2/TB1 (io), 78 P2.1/TB0 (io), 79 P2.0/TA2 (io), 80 P1.7/CA1 (io), 81 P1.6/CA0 (io), 82 P1.5/TACLK/ACLK (io), 83 P1.4/TBCLK/SMCLK (io), 84 P1.3/TBOUTH/SVSOUT (io), 85 P1.2/TA1 (io), 86 P1.1/TA0/MCLK (io), 87 P1.0/TA0 (io), 88 XT2OUT, 89 XT2IN, 90 TDO/TDI, 91 TDI, 92 TMS, 93 TCK (io), 94 ~{RST}/NMI, 95 P6.0/A0 (io), 96 P6.1/A1 (io), 97 P6.2/A2 (io), 98 AVss, 99 DVss1, 100 AVcc (power)

## NPN
designator T?  (value not drawn)
pins: 1 B, 2 E, 3 C

## NUP2105-D2
designator B?, comment NUP2105L-D2
pins: 1, 3

## NUP2105L-D
designator B?
pins: 1, 2, 3

## PIC16F873
designator U?
pins: 1 ~{MCLR}/VPP (in), 2 RA0/AN0 (io), 3 RA1/AN1 (io), 4 RA2/AN2/VREF-/CVREF (io), 5 RA3/AN3/VREF+ (io), 6 RA4/T0CKI/C1OUT (io), 7 RA5/AN4/~{SS}/C2OUT (io), 8 VSS (power), 9 OSC1/CLKI (in), 10 OSC2/CLKO (out), 11 RC0/T1OSO/T1CKI (io), 12 RC1/T1OSI/CCP2 (io), 13 RC2/CCP1 (io), 14 RC3/SCK/SCL (io), 15 RC4/SDI/SDA (io), 16 RC5/SDO (io), 17 RC6/TX/CK (io), 18 RC7/RX/DT (io), 19 VSS (power), 20 VDD (power), 21 RB0/INT (io), 22 RB1 (io), 23 RB2 (io), 24 RB3/PGM (io), 25 RB4 (io), 26 RB5 (io), 27 RB6/PGC (io), 28 RB7/PGD (io)

## PIC16F874
designator U?, comment 16F874
pins: 1 ~{MCLR}/VPP (in), 2 RA0/AN0 (io), 3 RA1/AN1 (io), 4 RA2/AN2/VREF- (io), 5 RA3/AN3/VREF+ (io), 6 RA4/T0CKI (io), 7 RA5/AN4/~{SS} (io), 8 RE0/~{RD}/AN5 (io), 9 RE1/~{WR}/AN6 (io), 10 RE2/~{CS}/AN7 (io), 11 VDD (power), 12 VSS (power), 13 OSC1/CLKIN (in), 14 OSC2/CLKOUT (out), 15 RC0/T1OSO/T1CKI (io), 16 RC1/T1OSI/CCP2 (io), 17 RC2/CCP1 (io), 18 RC3/SCK/SCL (io), 19 RD0/PSP0 (io), 20 RD1/PSP1 (io), 21 RD2/PSP2 (io), 22 RD3/PSP3 (io), 23 RC4/SDI/SDA (io), 24 RC5/SDO (io), 25 RC6/TX/CK (io), 26 RC7/RX/DT (io), 27 RD4/PSP4 (io), 28 RD5/PSP5 (io), 29 RD6/PSP6 (io), 30 RD7/PSP7 (io), 31 VSS (power), 32 VDD (power), 33 RB0/INT (io), 34 RB1 (io), 35 RB2 (io), 36 RB3/PGM (io), 37 RB4 (io), 38 RB5 (io), 39 RB6/PGC (io), 40 RB7/PGD (io)

## PIC16F876
designator U?
pins: 1 ~{MCLR}/VPP (in), 2 RA0/AN0 (io), 3 RA1/AN1 (io), 4 RA2/AN2/VREF-/CVREF (io), 5 RA3/AN3/VREF+ (io), 6 RA4/T0CKI/C1OUT (io), 7 RA5/AN4/~{SS}/C2OUT (io), 8 VSS (power), 9 OSC1/CLKI (in), 10 OSC2/CLKO (out), 11 RC0/T1OSO/T1CKI (io), 12 RC1/T1OSI/CCP2 (io), 13 RC2/CCP1 (io), 14 RC3/SCK/SCL (io), 15 RC4/SDI/SDA (io), 16 RC5/SDO (io), 17 RC6/TX/CK (io), 18 RC7/RX/DT (io), 19 VSS (power), 20 VDD (power), 21 RB0/INT (io), 22 RB1 (io), 23 RB2 (io), 24 RB3/PGM (io), 25 RB4 (io), 26 RB5 (io), 27 RB6/PGC (io), 28 RB7/PGD (io)

## PIC16F877
designator U?
pins: 1 ~{MCLR}/VPP (in), 2 RA0/AN0 (io), 3 RA1/AN1 (io), 4 RA2/AN2/VREF- (io), 5 RA3/AN3/VREF+ (io), 6 RA4/T0CKI (io), 7 RA5/AN4/~{SS} (io), 8 RE0/~{RD}/AN5 (io), 9 RE1/~{WR}/AN6 (io), 10 RE2/~{CS}/AN7 (io), 11 VDD (power), 12 VSS (power), 13 OSC1/CLKIN (in), 14 OSC2/CLKOUT (out), 15 RC0/T1OSO/T1CKI (io), 16 RC1/T1OSI/CCP2 (io), 17 RC2/CCP1 (io), 18 RC3/SCK/SCL (io), 19 RD0/PSP0 (io), 20 RD1/PSP1 (io), 21 RD2/PSP2 (io), 22 RD3/PSP3 (io), 23 RC4/SDI/SDA (io), 24 RC5/SDO (io), 25 RC6/TX/CK (io), 26 RC7/RX/DT (io), 27 RD4/PSP4 (io), 28 RD5/PSP5 (io), 29 RD6/PSP6 (io), 30 RD7/PSP7 (io), 31 VSS (power), 32 VDD (power), 33 RB0/INT (io), 34 RB1 (io), 35 RB2 (io), 36 RB3/PGM (io), 37 RB4 (io), 38 RB5 (io), 39 RB6/PGC (io), 40 RB7/PGD (io)

## PL2303HX
designator *
pins: 1 TXD, 2 DTR_N, 3 RTS_N, 4 VDD_232, 5 RXD, 6 RL_N, 7 GND, 8 VDD, 9 DSR_N, 10 DCD_N, 11 CTS_N, 12 SHTD_N, 13 EE_CLK, 14 EE_DATA, 15 DP, 16 DM, 17 VDD_3V3, 18 GND_3V3, 19 RESET, 20 VDD, 21 GND, 22 TRI_STATE, 23 LD_MODE, 24 VDD_PLL, 25 GND_PLL, 26 PLL_TEST, 27 OSC1, 28 OSC2

## PNP
designator T?  (value not drawn)
pins: 1 B, 2 C, 3 E

## POT
designator R?
pins: 1, 2, 3

## relay
designator U?, comment RELAY  (value not drawn)
pins: 1, 2, 3, 4, 5

## RES
designator R?, comment 1K
pins: 1, 2

## RES1
designator R?  (value not drawn)
pins: 1, 2

## RES8
designator R?
pins: 1, 2, 3, 4, 5, 6, 7, 8, 9, 10, 11, 12, 13, 14, 15, 16

## RES*4
designator *
pins: 1, 2, 3, 4, 5, 6, 7, 8

## RES*8
designator *
pins: 1, 2, 3, 4, 5, 6, 7, 8, 9, 10, 11, 12, 13, 14, 15, 16

## RJ-45
designator *
pins: 1 TD+, 2 TD-, 3 RD+, 4 TCT, 5 RCT, 6 RD-, 7 NC, 8 NC, 9 GRN+, 10 GRN-, 11 YEL-, 12 YEL+, 13 SHEL D, 14 SHEL D

## RJ-45-1
designator *
pins: 1 TD+, 2 TD-, 3 RD+, 4 TCT, 5 RCT, 6 RD-, 7 NC, 8 NC, 9 YEL+, 10 YEL-, 11 GRN+, 12 GRN-, 13 SHEL D, 14 SHEL D

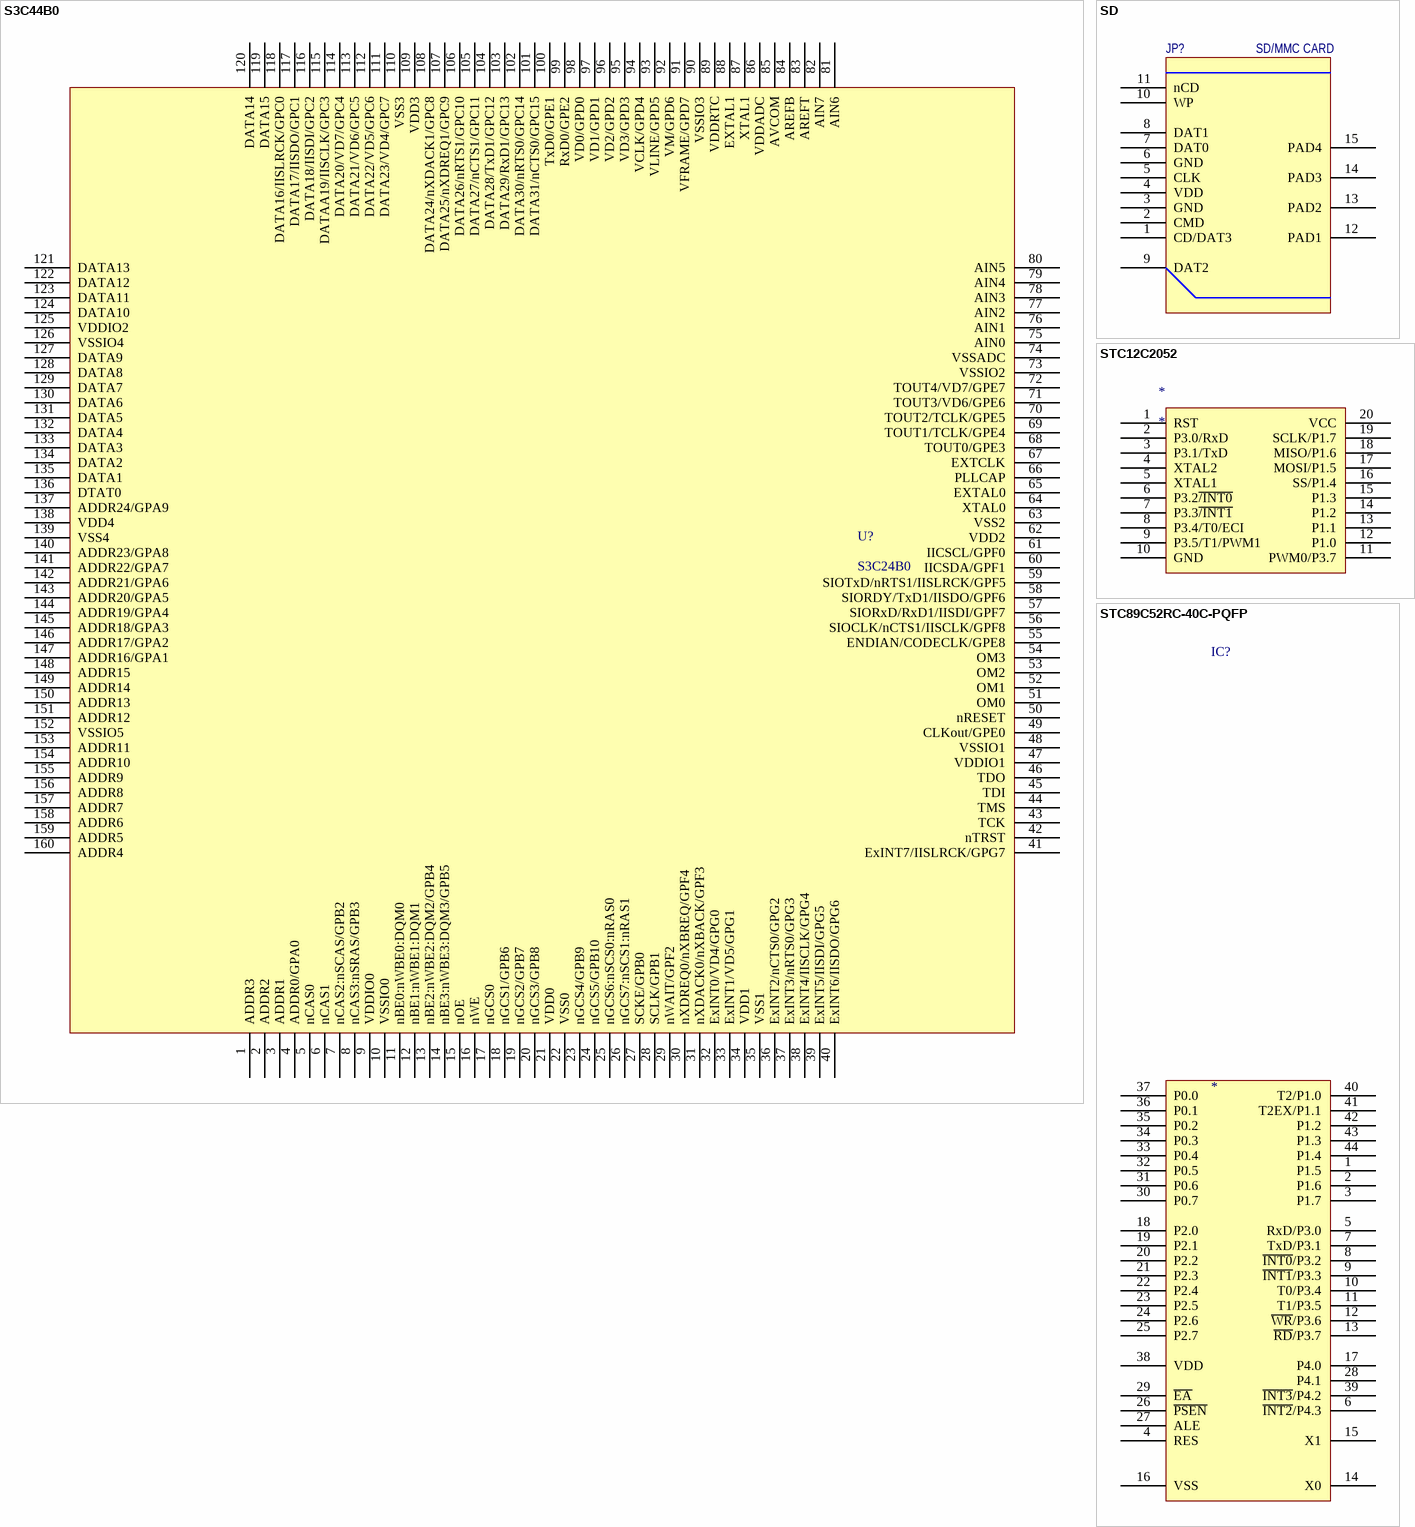
[diagram p10: symbols S3C44B0 to STC89C52RC-40C-PQFP]

## S3C44B0
designator U?, comment S3C24B0
pins: 1 ADDR3, 2 ADDR2, 3 ADDR1, 4 ADDR0/GPA0, 5 nCAS0, 6 nCAS1, 7 nCAS2:nSCAS/GPB2, 8 nCAS3:nSRAS/GPB3, 9 VDDIO0, 10 VSSIO0, 11 nBE0:nWBE0:DQM0, 12 nBE1:nWBE1:DQM1, 13 nBE2:nWBE2:DQM2/GPB4, 14 nBE3:nWBE3:DQM3/GPB5, 15 nOE, 16 nWE, 17 nGCS0, 18 nGCS1/GPB6, 19 nGCS2/GPB7, 20 nGCS3/GPB8, 21 VDD0, 22 VSS0, 23 nGCS4/GPB9, 24 nGCS5/GPB10, 25 nGCS6:nSCS0:nRAS0, 26 nGCS7:nSCS1:nRAS1, 27 SCKE/GPB0, 28 SCLK/GPB1, 29 nWAIT/GPF2, 30 nXDREQ0/nXBREQ/GPF4, 31 nXDACK0/nXBACK/GPF3, 32 ExINT0/VD4/GPG0, 33 ExINT1/VD5/GPG1, 34 VDD1, 35 VSS1, 36 ExINT2/nCTS0/GPG2, 37 ExINT3/nRTS0/GPG3, 38 ExINT4/IISCLK/GPG4, 39 ExINT5/IISDI/GPG5, 40 ExINT6/IISDO/GPG6, 41 ExINT7/IISLRCK/GPG7, 42 nTRST, 43 TCK, 44 TMS, 45 TDI, 46 TDO, 47 VDDIO1, 48 VSSIO1, 49 CLKout/GPE0, 50 nRESET, 51 OM0, 52 OM1, 53 OM2, 54 OM3, 55 ENDIAN/CODECLK/GPE8, 56 SIOCLK/nCTS1/IISCLK/GPF8, 57 SIORxD/RxD1/IISDI/GPF7, 58 SIORDY/TxD1/IISDO/GPF6, 59 SIOTxD/nRTS1/IISLRCK/GPF5, 60 IICSDA/GPF1, 61 IICSCL/GPF0, 62 VDD2, 63 VSS2, 64 XTAL0, 65 EXTAL0, 66 PLLCAP, 67 EXTCLK, 68 TOUT0/GPE3, 69 TOUT1/TCLK/GPE4, 70 TOUT2/TCLK/GPE5, 71 TOUT3/VD6/GPE6, 72 TOUT4/VD7/GPE7, 73 VSSIO2, 74 VSSADC, 75 AIN0, 76 AIN1, 77 AIN2, 78 AIN3, 79 AIN4, 80 AIN5, 81 AIN6, 82 AIN7, 83 AREFT, 84 AREFB, 85 AVCOM, 86 VDDADC, 87 XTAL1, 88 EXTAL1, 89 VDDRTC, 90 VSSIO3, 91 VFRAME/GPD7, 92 VM/GPD6, 93 VLINE/GPD5, 94 VCLK/GPD4, 95 VD3/GPD3, 96 VD2/GPD2, 97 VD1/GPD1, 98 VD0/GPD0, 99 RxD0/GPE2, 100 TxD0/GPE1, 101 DATA31/nCTS0/GPC15, 102 DATA30/nRTS0/GPC14, 103 DATA29/RxD1/GPC13, 104 DATA28/TxD1/GPC12, 105 DATA27/nCTS1/GPC11, 106 DATA26/nRTS1/GPC10, 107 DATA25/nXDREQ1/GPC9, 108 DATA24/nXDACK1/GPC8, 109 VDD3, 110 VSS3, 111 DATA23/VD4/GPC7, 112 DATA22/VD5/GPC6, 113 DATA21/VD6/GPC5, 114 DATA20/VD7/GPC4, 115 DATAA19/IISCLK/GPC3, 116 DATA18/IISDI/GPC2, 117 DATA17/IISDO/GPC1, 118 DATA16/IISLRCK/GPC0, 119 DATA15, 120 DATA14, 121 DATA13, 122 DATA12, 123 DATA11, 124 DATA10, 125 VDDIO2, 126 VSSIO4, 127 DATA9, 128 DATA8, 129 DATA7, 130 DATA6, 131 DATA5, 132 DATA4, 133 DATA3, 134 DATA2, 135 DATA1, 136 DTAT0, 137 ADDR24/GPA9, 138 VDD4, 139 VSS4, 140 ADDR23/GPA8, 141 ADDR22/GPA7, 142 ADDR21/GPA6, 143 ADDR20/GPA5, 144 ADDR19/GPA4, 145 ADDR18/GPA3, 146 ADDR17/GPA2, 147 ADDR16/GPA1, 148 ADDR15, 149 ADDR14, 150 ADDR13, 151 ADDR12, 152 VSSIO5, 153 ADDR11, 154 ADDR10, 155 ADDR9, 156 ADDR8, 157 ADDR7, 158 ADDR6, 159 ADDR5, 160 ADDR4

## SD
designator JP?, comment SD/MMC CARD
footprint SDCARD
pins: 1 CD/DAT3, 2 CMD, 3 GND, 4 VDD, 5 CLK, 6 GND, 7 DAT0, 8 DAT1, 9 DAT2, 10 WP, 11 nCD, 12 PAD1, 13 PAD2, 14 PAD3, 15 PAD4

## STC12C2052
designator *
pins: 1 RST, 2 P3.0/RxD, 3 P3.1/TxD, 4 XTAL2, 5 XTAL1, 6 P3.2~{/INT0}, 7 P3.3~{/INT1}, 8 P3.4/T0/ECI, 9 P3.5/T1/PWM1, 10 GND, 11 PWM0/P3.7, 12 P1.0, 13 P1.1, 14 P1.2, 15 P1.3, 16 SS/P1.4, 17 MOSI/P1.5, 18 MISO/P1.6, 19 SCLK/P1.7, 20 VCC

## STC89C52RC-40C-PQFP
designator IC?
footprint QFP44
pins: 1 P1.5, 2 P1.6, 3 P1.7, 4 RES, 5 RxD/P3.0, 6 ~{INT2}/P4.3, 7 TxD/P3.1, 8 ~{INT0}/P3.2, 9 ~{INT1}/P3.3, 10 T0/P3.4, 11 T1/P3.5, 12 ~{WR}/P3.6, 13 ~{RD}/P3.7, 14 X0, 15 X1, 16 VSS, 17 P4.0, 18 P2.0, 19 P2.1, 20 P2.2, 21 P2.3, 22 P2.4, 23 P2.5, 24 P2.6, 25 P2.7, 26 ~{PSEN}, 27 ALE, 28 P4.1, 29 ~{EA}, 30 P0.7, 31 P0.6, 32 P0.5, 33 P0.4, 34 P0.3, 35 P0.2, 36 P0.1, 37 P0.0, 38 VDD, 39 ~{INT3}/P4.2, 40 T2/P1.0, 41 T2EX/P1.1, 42 P1.2, 43 P1.3, 44 P1.4

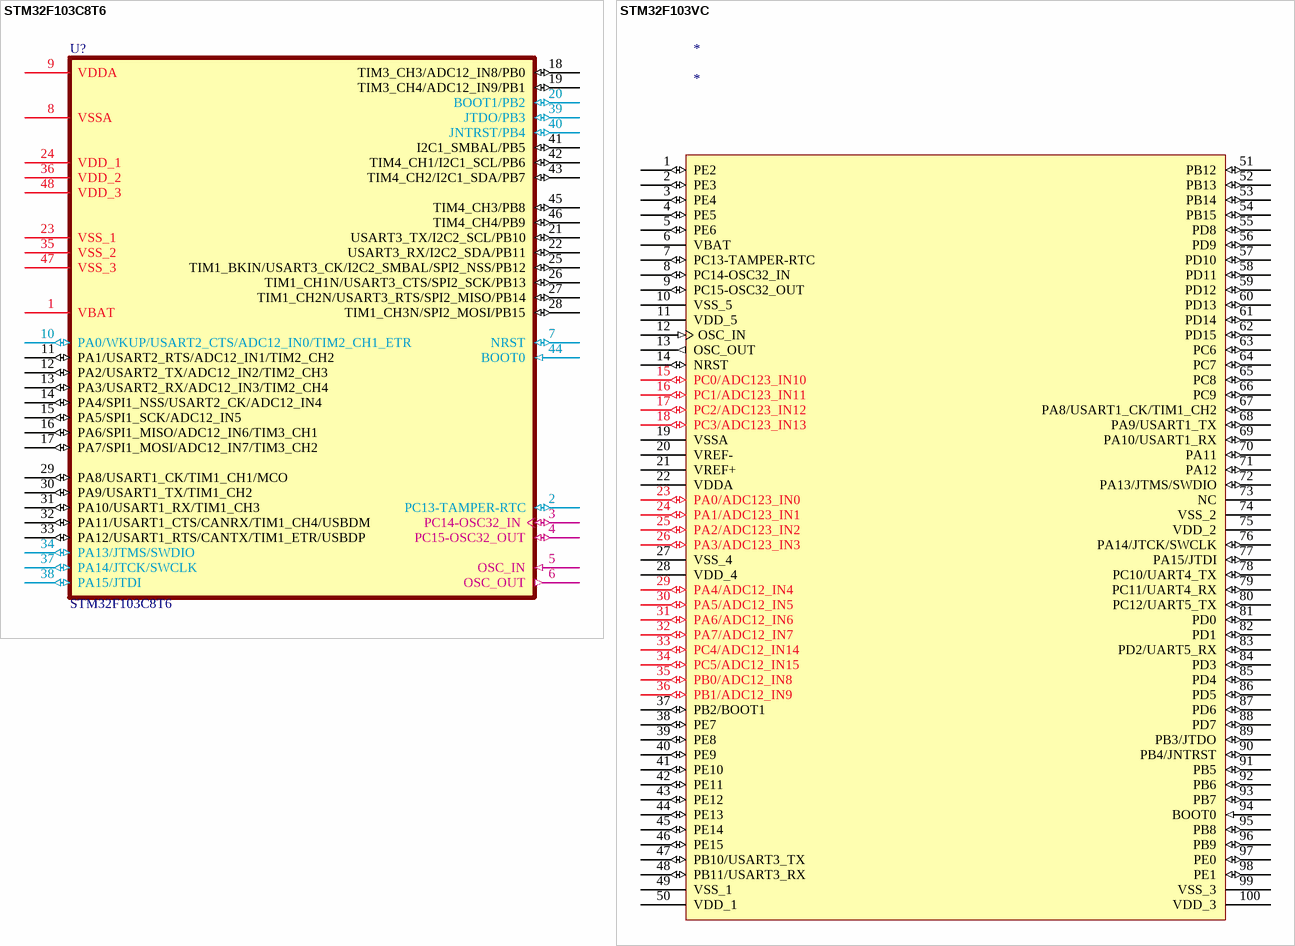
[diagram p11: symbols STM32F103C8T6 to STM32F103VC]

## STM32F103C8T6
designator U?
STM32 ARM-based 32-bit MCU with 64 Kbytes Flash, 48-pin LQFP, Industrial Temperature; Published: *; DatasheetVersion: *; PackageVersion: *; PackageReference: *; Publisher: *; PackageDescription: *; ComponentLink1Description: *; ComponentLink1URL: *; ComponentLink2Description: *; ComponentLink2URL: *
footprint Quad48
pins: 1 VBAT (power), 2 PC13-TAMPER-RTC (io), 3 PC14-OSC32_IN (io), 4 PC15-OSC32_OUT (io), 5 OSC_IN (in), 6 OSC_OUT (out), 7 NRST (io), 8 VSSA (power), 9 VDDA (power), 10 PA0/WKUP/USART2_CTS/ADC12_IN0/TIM2_CH1_ETR (io), 11 PA1/USART2_RTS/ADC12_IN1/TIM2_CH2 (io), 12 PA2/USART2_TX/ADC12_IN2/TIM2_CH3 (io), 13 PA3/USART2_RX/ADC12_IN3/TIM2_CH4 (io), 14 PA4/SPI1_NSS/USART2_CK/ADC12_IN4 (io), 15 PA5/SPI1_SCK/ADC12_IN5 (io), 16 PA6/SPI1_MISO/ADC12_IN6/TIM3_CH1 (io), 17 PA7/SPI1_MOSI/ADC12_IN7/TIM3_CH2 (io), 18 TIM3_CH3/ADC12_IN8/PB0 (io), 19 TIM3_CH4/ADC12_IN9/PB1 (io), 20 BOOT1/PB2 (io), 21 USART3_TX/I2C2_SCL/PB10 (io), 22 USART3_RX/I2C2_SDA/PB11 (io), 23 VSS_1 (power), 24 VDD_1 (power), 25 TIM1_BKIN/USART3_CK/I2C2_SMBAL/SPI2_NSS/PB12 (io), 26 TIM1_CH1N/USART3_CTS/SPI2_SCK/PB13 (io), 27 TIM1_CH2N/USART3_RTS/SPI2_MISO/PB14 (io), 28 TIM1_CH3N/SPI2_MOSI/PB15 (io), 29 PA8/USART1_CK/TIM1_CH1/MCO (io), 30 PA9/USART1_TX/TIM1_CH2 (io), 31 PA10/USART1_RX/TIM1_CH3 (io), 32 PA11/USART1_CTS/CANRX/TIM1_CH4/USBDM (io), 33 PA12/USART1_RTS/CANTX/TIM1_ETR/USBDP (io), 34 PA13/JTMS/SWDIO (io), 35 VSS_2 (power), 36 VDD_2 (power), 37 PA14/JTCK/SWCLK (io), 38 PA15/JTDI (io), 39 JTDO/PB3 (io), 40 JNTRST/PB4 (io), 41 I2C1_SMBAL/PB5 (io), 42 TIM4_CH1/I2C1_SCL/PB6 (io), 43 TIM4_CH2/I2C1_SDA/PB7 (io), 44 BOOT0 (in), 45 TIM4_CH3/PB8 (io), 46 TIM4_CH4/PB9 (io), 47 VSS_3 (power), 48 VDD_3 (power)
2 alternate drawings of the same symbol